# Altium schematic symbol library components.SchLib: 244 symbols (part 2 of 3)
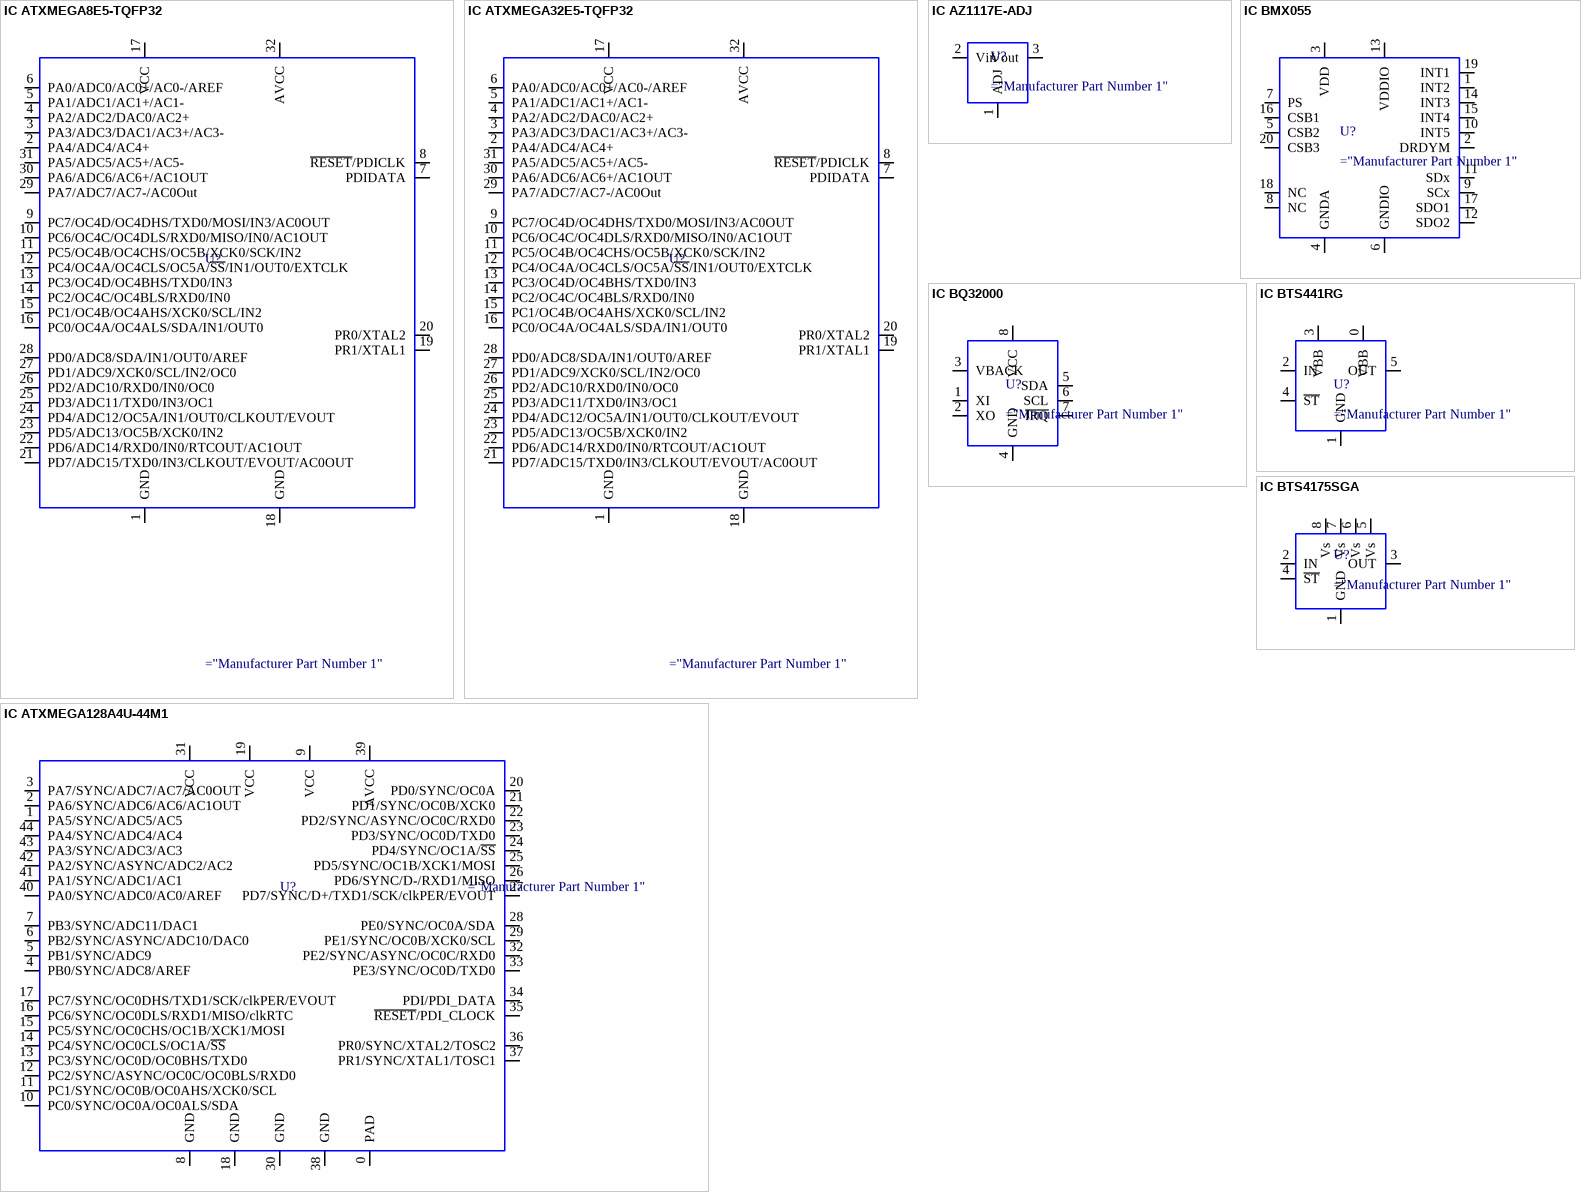
[diagram p26: symbols IC ATXMEGA8E5-TQFP32 to IC BTS4175SGA]

## IC AZ1117E-ADJ
designator U?
LDO Adjustable Output, Diodes AZ1117E-ADJ
pins: 1 ADJ, 2 Vin, 3 Vout

## IC BMX055
designator U?
IMU 9DoF, Bosch BMX055
pins: 1 INT2, 2 DRDYM, 3 VDD, 4 GNDA, 5 CSB2, 6 GNDIO, 7 PS, 8 NC, 9 SCx, 10 INT5, 11 SDx, 12 SDO2, 13 VDDIO, 14 INT3, 15 INT4, 16 CSB1, 17 SDO1, 18 NC, 19 INT1, 20 CSB3

## IC BQ32000
designator U?
RTC, TI BQ32000
pins: 1 XI, 2 XO, 3 VBACK, 4 GND, 5 SDA, 6 SCL, 7 ~{IRQ}, 8 VCC

## IC BTS441RG
designator U?
Current Limit Switch, High-Side, Infineon BTS441RG
pins: 0 VBB, 1 GND, 2 IN, 3 VBB, 4 ~{ST}, 5 OUT

## IC BTS4175SGA
designator U?
Current Limiting Switch, High-Side, Infineon BTS4175SGA
pins: 1 GND, 2 IN, 3 OUT, 4 ~{ST}, 5 Vs, 6 Vs, 7 Vs, 8 Vs

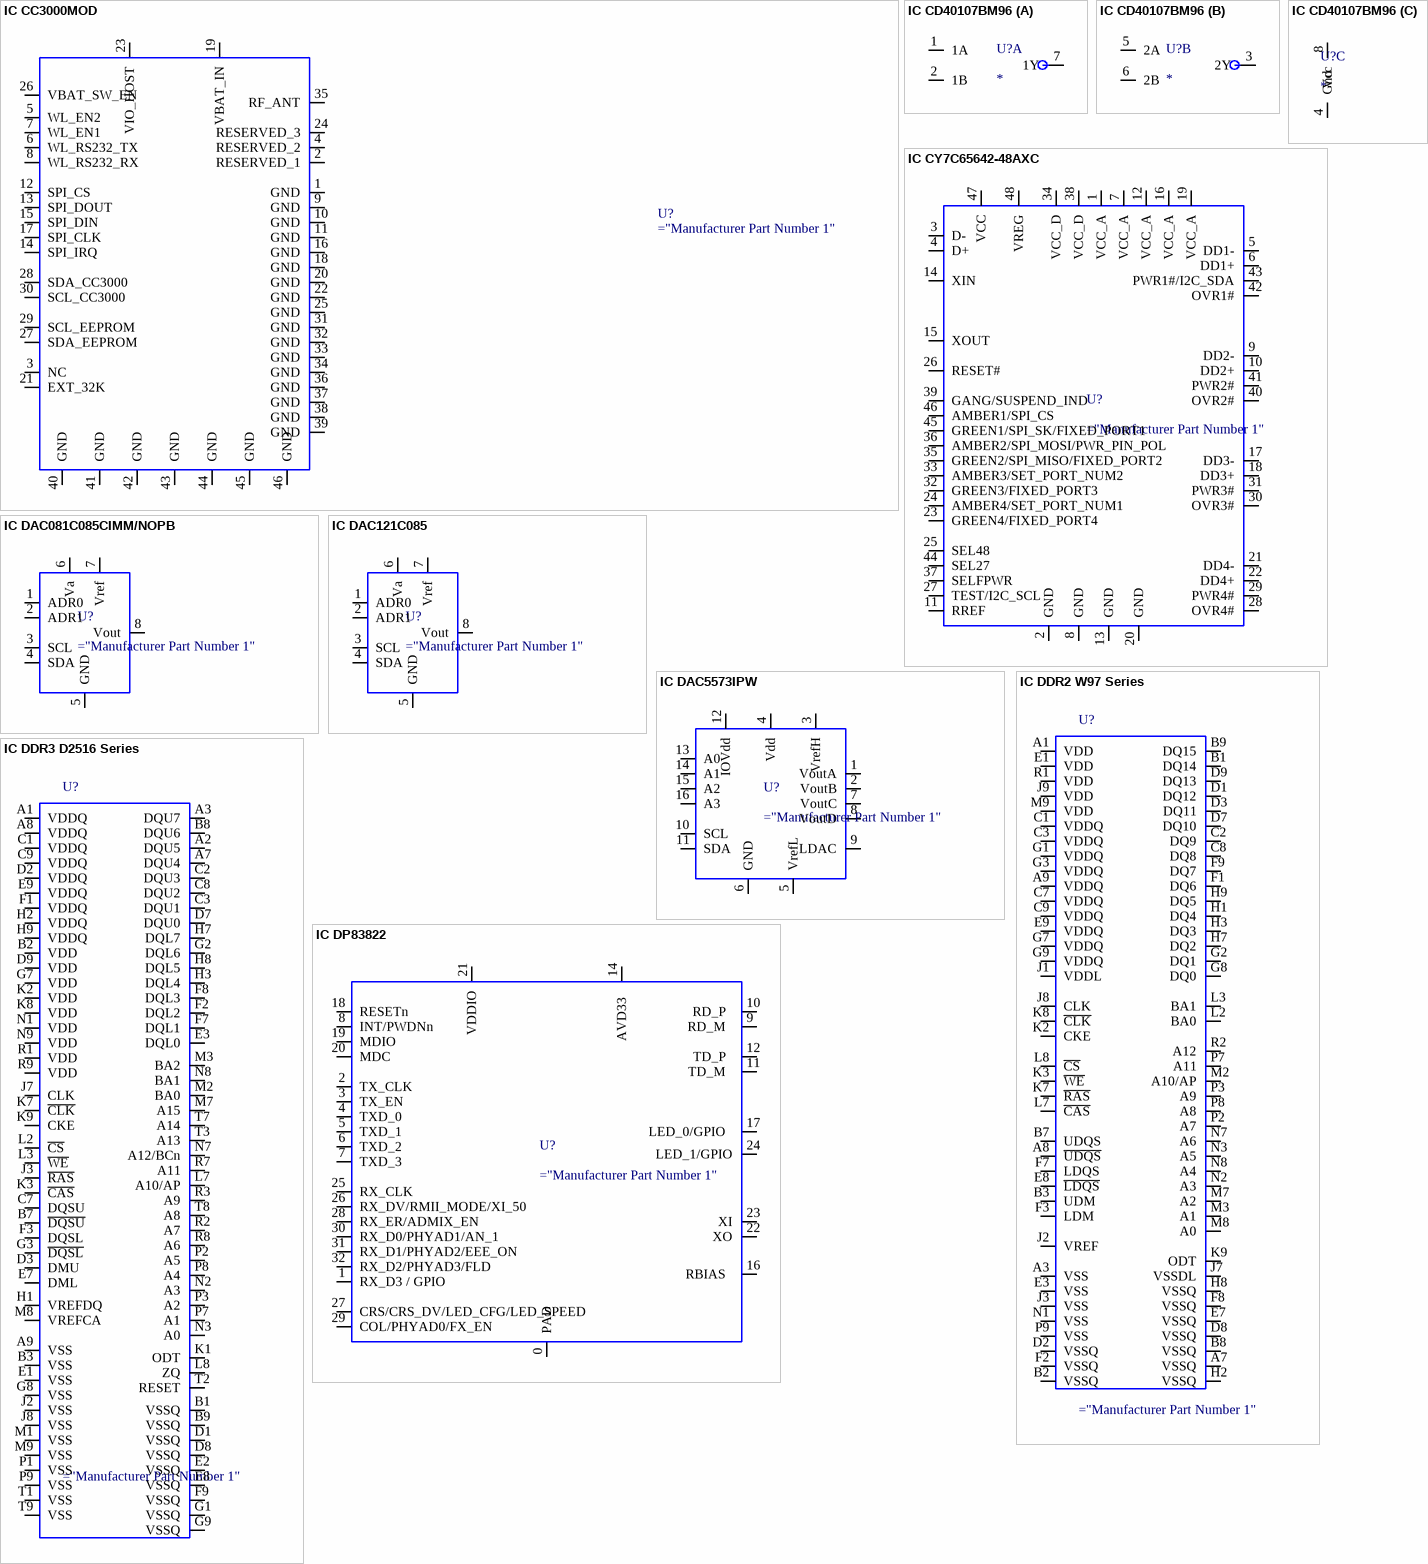
[diagram p14: symbols IC CC3000MOD to IC DP83822]

## IC CC3000MOD
designator U?
WiFi Network Processor, TI CC3000 Module
pins: 1 GND (power), 2 RESERVED_1, 3 NC, 4 RESERVED_2, 5 WL_EN2, 6 WL_RS232_TX, 7 WL_EN1, 8 WL_RS232_RX, 9 GND (power), 10 GND (power), 11 GND (power), 12 SPI_CS, 13 SPI_DOUT, 14 SPI_IRQ, 15 SPI_DIN, 16 GND (power), 17 SPI_CLK, 18 GND (power), 19 VBAT_IN (power), 20 GND (power), 21 EXT_32K, 22 GND (power), 23 VIO_HOST, 24 RESERVED_3, 25 GND (power), 26 VBAT_SW_EN, 27 SDA_EEPROM, 28 SDA_CC3000, 29 SCL_EEPROM, 30 SCL_CC3000, 31 GND (power), 32 GND (power), 33 GND (power), 34 GND (power), 35 RF_ANT, 36 GND (power), 37 GND (power), 38 GND (power), 39 GND (power), 40 GND (power), 41 GND (power), 42 GND (power), 43 GND (power), 44 GND (power), 45 GND (power), 46 GND (power)

## IC CD40107BM96
designator U?
Dual NAND Gate, Open-Drain, C40107BM96
part A pins: 1 1A, 2 1B, 7 1Y
part B pins: 3 2Y, 5 2A, 6 2B
part C pins: 4 Gnd, 8 Vcc

## IC CY7C65642-48AXC
designator U?
4-port USB Hub Controller, Cypress CY7C65642-48AXC
pins: 1 VCC_A, 2 GND, 3 D-, 4 D+, 5 DD1-, 6 DD1+, 7 VCC_A, 8 GND, 9 DD2-, 10 DD2+, 11 RREF, 12 VCC_A, 13 GND, 14 XIN, 15 XOUT, 16 VCC_A, 17 DD3-, 18 DD3+, 19 VCC_A, 20 GND, 21 DD4-, 22 DD4+, 23 GREEN4/FIXED_PORT4, 24 AMBER4/SET_PORT_NUM1, 25 SEL48, 26 RESET#, 27 TEST/I2C_SCL, 28 OVR4#, 29 PWR4#, 30 OVR3#, 31 PWR3#, 32 GREEN3/FIXED_PORT3, 33 AMBER3/SET_PORT_NUM2, 34 VCC_D, 35 GREEN2/SPI_MISO/FIXED_PORT2, 36 AMBER2/SPI_MOSI/PWR_PIN_POL, 37 SELFPWR, 38 VCC_D, 39 GANG/SUSPEND_IND, 40 OVR2#, 41 PWR2#, 42 OVR1#, 43 PWR1#/I2C_SDA, 44 SEL27, 45 GREEN1/SPI_SK/FIXED_PORT1, 46 AMBER1/SPI_CS, 47 VCC, 48 VREG

## IC DAC081C085CIMM/NOPB
designator U?
Single 8-bit DAC with internal reference, I2C, voltage output, TI DAC081C085
pins: 1 ADR0, 2 ADR1, 3 SCL, 4 SDA, 5 GND, 6 Va, 7 Vref, 8 Vout

## IC DAC121C085
designator U?
Single 12-bit DAC with I2C, TI DAC121C085
pins: 1 ADR0, 2 ADR1, 3 SCL, 4 SDA, 5 GND, 6 Va, 7 Vref, 8 Vout
1 alternate drawing of the same symbol

## IC DAC5573IPW
designator U?
Quad 8-bit buffered DAC with internal reference, I2C, voltage output, 16 Prog Addresses, TI DAC5573IPW
pins: 1 VoutA, 2 VoutB, 3 VrefH, 4 Vdd, 5 VrefL, 6 GND, 7 VoutC, 8 VoutD, 9 LDAC, 10 SCL, 11 SDA, 12 IOVdd, 13 A0, 14 A1, 15 A2, 16 A3
1 alternate drawing of the same symbol

## IC DDR2 W97 Series
designator U?
DDR2 SDRAM, Winbond W971GG6JB W9751G6KB
pins: A1 VDD, A3 VSS, A7 VSSQ, A8 ~{UDQS}, A9 VDDQ, B1 DQ14, B2 VSSQ, B3 UDM, B7 UDQS, B8 VSSQ, B9 DQ15, C1 VDDQ, C2 DQ9, C3 VDDQ, C7 VDDQ, C8 DQ8, C9 VDDQ, D1 DQ12, D2 VSSQ, D3 DQ11, D7 DQ10, D8 VSSQ, D9 DQ13, E1 VDD, E3 VSS, E7 VSSQ, E8 ~{LDQS}, E9 VDDQ, F1 DQ6, F2 VSSQ, F3 LDM, F7 LDQS, F8 VSSQ, F9 DQ7, G1 VDDQ, G2 DQ1, G3 VDDQ, G7 VDDQ, G8 DQ0, G9 VDDQ, H1 DQ4, H2 VSSQ, H3 DQ3, H7 DQ2, H8 VSSQ, H9 DQ5, J1 VDDL, J2 VREF, J3 VSS, J7 VSSDL, J8 CLK, J9 VDD, K2 CKE, K3 ~{WE}, K7 ~{RAS}, K8 ~{CLK}, K9 ODT, L2 BA0, L3 BA1, L7 ~{CAS}, L8 ~{CS}, M2 A10/AP, M3 A1, M7 A2, M8 A0, M9 VDD, N1 VSS, N2 A3, N3 A5, N7 A6, N8 A4, P2 A7, P3 A9, P7 A11, P8 A8, P9 VSS, R1 VDD, R2 A12

## IC DDR3 D2516 Series
designator U?
DDR3 SDRAM, Kingston 4Gb 256M words x 16 bits
pins: A1 VDDQ, A2 DQU5, A3 DQU7, A7 DQU4, A8 VDDQ, A9 VSS, B1 VSSQ, B2 VDD, B3 VSS, B7 ~{DQSU}, B8 DQU6, B9 VSSQ, C1 VDDQ, C2 DQU3, C3 DQU1, C7 DQSU, C8 DQU2, C9 VDDQ, D1 VSSQ, D2 VDDQ, D3 DMU, D7 DQU0, D8 VSSQ, D9 VDD, E1 VSS, E2 VSSQ, E3 DQL0, E7 DML, E8 VSSQ, E9 VDDQ, F1 VDDQ, F2 DQL2, F3 DQSL, F7 DQL1, F8 DQL3, F9 VSSQ, G1 VSSQ, G2 DQL6, G3 ~{DQSL}, G7 VDD, G8 VSS, G9 VSSQ, H1 VREFDQ, H2 VDDQ, H3 DQL4, H7 DQL7, H8 DQL5, H9 VDDQ, J2 VSS, J3 ~{RAS}, J7 CLK, J8 VSS, K1 ODT, K2 VDD, K3 ~{CAS}, K7 ~{CLK}, K8 VDD, K9 CKE, L2 ~{CS}, L3 ~{WE}, L7 A10/AP, L8 ZQ, M1 VSS, M2 BA0, M3 BA2, M7 A15, M8 VREFCA, M9 VSS, N1 VDD, N2 A3, N3 A0, N7 A12/BCn, N8 BA1, N9 VDD, P1 VSS, P2 A5, P3 A2, P7 A1, P8 A4, P9 VSS, R1 VDD, R2 A7, R3 A9, R7 A11, R8 A6, R9 VDD, T1 VSS, T2 RESET, T3 A13, T7 A14, T8 A8, T9 VSS

## IC DP83822
designator U?
TI DP83822 WoL EEE Ethernet PHY with LED drivers
pins: 0 PAD, 1 RX_D3 / GPIO  , 2 TX_CLK, 3 TX_EN, 4 TXD_0, 5 TXD_1, 6 TXD_2, 7 TXD_3, 8 INT/PWDNn, 9 RD_M  , 10 RD_P  , 11 TD_M  , 12 TD_P  , 13 NC hidden, 14 AVD33  , 15 NC hidden, 16 RBIAS  , 17 LED_0/GPIO  , 18 RESETn, 19 MDIO  , 20 MDC  , 21 VDDIO, 22 XO, 23 XI, 24 LED_1/GPIO, 25 RX_CLK, 26 RX_DV/RMII_MODE/XI_50, 27 CRS/CRS_DV/LED_CFG/LED_SPEED, 28 RX_ER/ADMIX_EN, 29 COL/PHYAD0/FX_EN, 30 RX_D0/PHYAD1/AN_1, 31 RX_D1/PHYAD2/EEE_ON, 32 RX_D2/PHYAD3/FLD

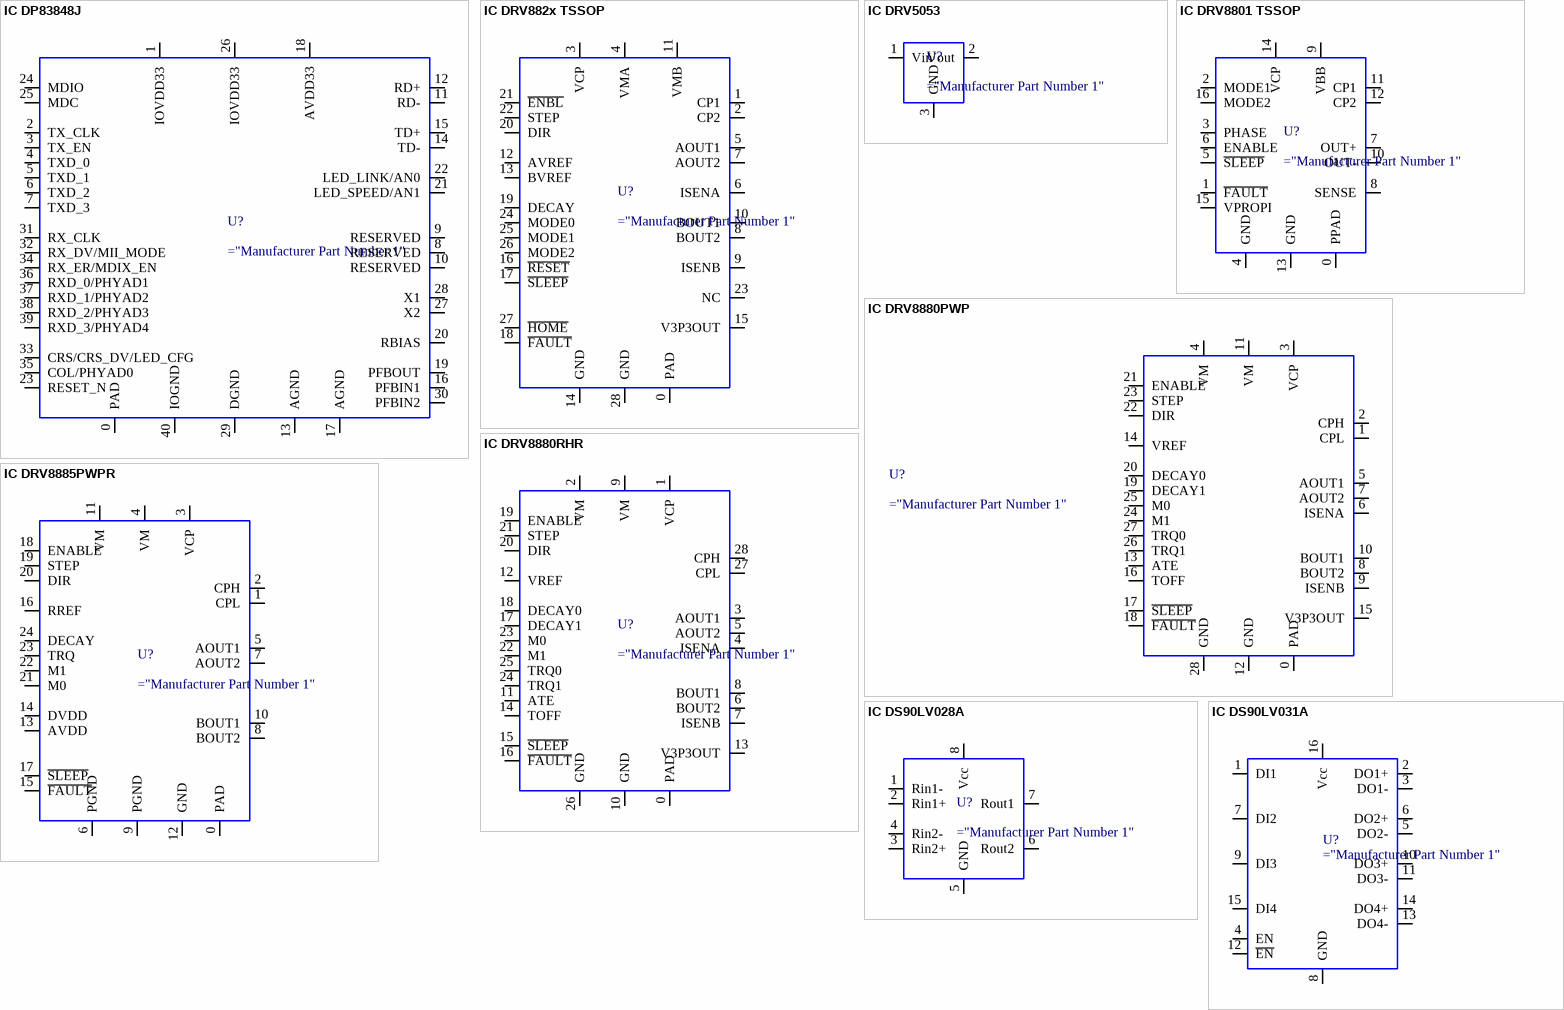
[diagram p15: symbols IC DP83848J to IC DS90LV031A]

## IC DP83848J
designator U?
Ethernet PHY with LED drivers, TI DP83848
pins: 0 PAD, 1 IOVDD33, 2 TX_CLK, 3 TX_EN, 4 TXD_0, 5 TXD_1, 6 TXD_2, 7 TXD_3, 8 RESERVED, 9 RESERVED, 10 RESERVED, 11 RD-, 12 RD+, 13 AGND, 14 TD-, 15 TD+, 16 PFBIN1, 17 AGND, 18 AVDD33, 19 PFBOUT, 20 RBIAS, 21 LED_SPEED/AN1, 22 LED_LINK/AN0, 23 RESET_N, 24 MDIO, 25 MDC, 26 IOVDD33, 27 X2, 28 X1, 29 DGND, 30 PFBIN2, 31 RX_CLK, 32 RX_DV/MII_MODE, 33 CRS/CRS_DV/LED_CFG, 34 RX_ER/MDIX_EN, 35 COL/PHYAD0, 36 RXD_0/PHYAD1, 37 RXD_1/PHYAD2, 38 RXD_2/PHYAD3, 39 RXD_3/PHYAD4, 40 IOGND

## IC DRV882x TSSOP
designator U?
Stepper Motor Controller, TI DRV8824/DRV8825
pins: 0 PAD, 1 CP1, 2 CP2, 3 VCP, 4 VMA, 5 AOUT1, 6 ISENA, 7 AOUT2, 8 BOUT2, 9 ISENB, 10 BOUT1, 11 VMB, 12 AVREF, 13 BVREF, 14 GND, 15 V3P3OUT, 16 ~{RESET}, 17 ~{SLEEP}, 18 ~{FAULT}, 19 DECAY, 20 DIR, 21 ~{ENBL}, 22 STEP, 23 NC, 24 MODE0, 25 MODE1, 26 MODE2, 27 ~{HOME}, 28 GND

## IC DRV5053
designator U?
TI Hall Effect Sensor Single Axis SOT-23-3
pins: 1 Vin, 2 Vout, 3 GND

## IC DRV8801 TSSOP
designator U?
TI DRV8801PWP, 2.8A Brushed DC Motor Driver with Current Sense
pins: 0 PPAD, 1 ~{FAULT}, 2 MODE1, 3 PHASE, 4 GND, 5 ~{SLEEP}, 6 ENABLE, 7 OUT+, 8 SENSE, 9 VBB, 10 OUT-, 11 CP1, 12 CP2, 13 GND, 14 VCP, 15 VPROPI, 16 MODE2

## IC DRV8880PWP
designator U?
Stepper Motor Driver, TI DRV8880PWP
pins: 0 PAD, 1 CPL, 2 CPH, 3 VCP, 4 VM, 5 AOUT1, 6 ISENA, 7 AOUT2, 8 BOUT2, 9 ISENB, 10 BOUT1, 11 VM, 12 GND, 13 ATE, 14 VREF, 15 V3P3OUT, 16 TOFF, 17 ~{SLEEP}, 18 ~{FAULT}, 19 DECAY1, 20 DECAY0, 21 ENABLE, 22 DIR, 23 STEP, 24 M1, 25 M0, 26 TRQ1, 27 TRQ0, 28 GND
1 alternate drawing of the same symbol

## IC DRV8880RHR
designator U?
Stepper Motor Driver, TI DRV8880RHR
pins: 0 PAD, 1 VCP, 2 VM, 3 AOUT1, 4 ISENA, 5 AOUT2, 6 BOUT2, 7 ISENB, 8 BOUT1, 9 VM, 10 GND, 11 ATE, 12 VREF, 13 V3P3OUT, 14 TOFF, 15 ~{SLEEP}, 16 ~{FAULT}, 17 DECAY1, 18 DECAY0, 19 ENABLE, 20 DIR, 21 STEP, 22 M1, 23 M0, 24 TRQ1, 25 TRQ0, 26 GND, 27 CPL, 28 CPH
1 alternate drawing of the same symbol

## IC DRV8885PWPR
designator U?
Stepper Motor Driver, TI DRV8885PWPR
pins: 0 PAD, 1 CPL, 2 CPH, 3 VCP, 4 VM, 5 AOUT1, 6 PGND, 7 AOUT2, 8 BOUT2, 9 PGND, 10 BOUT1, 11 VM, 12 GND, 13 AVDD, 14 DVDD, 15 ~{FAULT}, 16 RREF, 17 ~{SLEEP}, 18 ENABLE, 19 STEP, 20 DIR, 21 M0, 22 M1, 23 TRQ, 24 DECAY
1 alternate drawing of the same symbol

## IC DS90LV028A
designator U?
Dual CMOS LVDS Receiver, TI DS90LV028A
pins: 1 Rin1-, 2 Rin1+, 3 Rin2+, 4 Rin2-, 5 GND, 6 Rout2, 7 Rout1, 8 Vcc

## IC DS90LV031A
designator U?
Quad LVDS Line Driver LVDS, TI DS90LV031A
pins: 1 DI1, 2 DO1+, 3 DO1-, 4 EN, 5 DO2-, 6 DO2+, 7 DI2, 8 GND, 9 DI3, 10 DO3+, 11 DO3-, 12 ~{EN}, 13 DO4-, 14 DO4+, 15 DI4, 16 Vcc

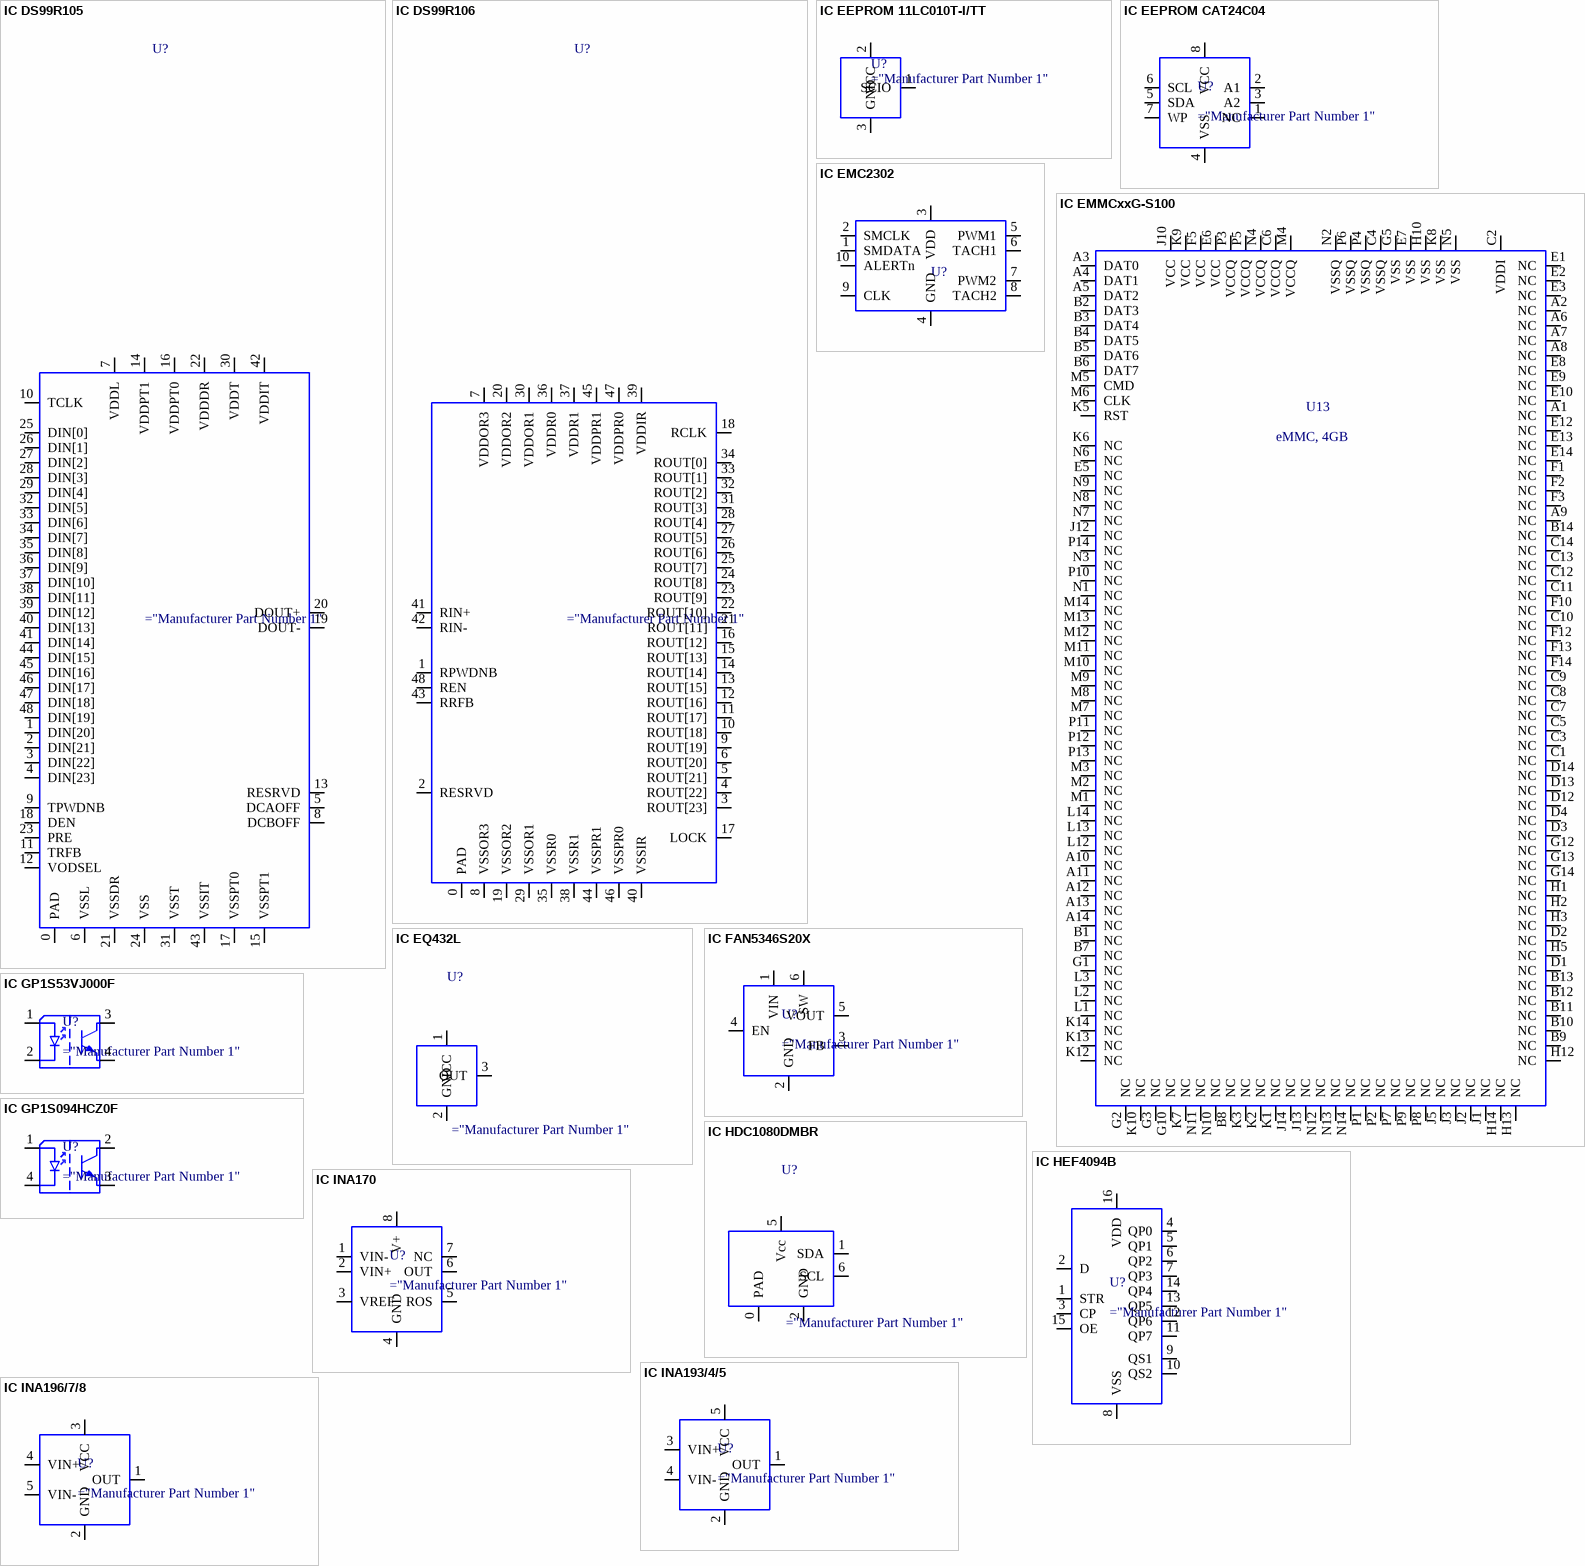
[diagram p16: symbols IC DS99R105 to IC INA196/7/8]

## IC DS99R105
designator U?
LVDS 24-bit Serializer, TI DS99R105
pins: 0 PAD, 1 DIN[20], 2 DIN[21], 3 DIN[22], 4 DIN[23], 5 DCAOFF, 6 VSSL, 7 VDDL, 8 DCBOFF, 9 TPWDNB, 10 TCLK, 11 TRFB, 12 VODSEL, 13 RESRVD, 14 VDDPT1, 15 VSSPT1, 16 VDDPT0, 17 VSSPT0, 18 DEN, 19 DOUT-, 20 DOUT+, 21 VSSDR, 22 VDDDR, 23 PRE, 24 VSS, 25 DIN[0], 26 DIN[1], 27 DIN[2], 28 DIN[3], 29 DIN[4], 30 VDDT, 31 VSST, 32 DIN[5], 33 DIN[6], 34 DIN[7], 35 DIN[8], 36 DIN[9], 37 DIN[10], 38 DIN[11], 39 DIN[12], 40 DIN[13], 41 DIN[14], 42 VDDIT, 43 VSSIT, 44 DIN[15], 45 DIN[16], 46 DIN[17], 47 DIN[18], 48 DIN[19]

## IC DS99R106
designator U?
LVDS 24-bit Deserializer, TI DS99R106
pins: 0 PAD, 1 RPWDNB, 2 RESRVD, 3 ROUT[23], 4 ROUT[22], 5 ROUT[21], 6 ROUT[20], 7 VDDOR3, 8 VSSOR3, 9 ROUT[19], 10 ROUT[18], 11 ROUT[17], 12 ROUT[16], 13 ROUT[15], 14 ROUT[14], 15 ROUT[13], 16 ROUT[12], 17 LOCK, 18 RCLK, 19 VSSOR2, 20 VDDOR2, 21 ROUT[11], 22 ROUT[10], 23 ROUT[9], 24 ROUT[8], 25 ROUT[7], 26 ROUT[6], 27 ROUT[5], 28 ROUT[4], 29 VSSOR1, 30 VDDOR1, 31 ROUT[3], 32 ROUT[2], 33 ROUT[1], 34 ROUT[0], 35 VSSR0, 36 VDDR0, 37 VDDR1, 38 VSSR1, 39 VDDIR, 40 VSSIR, 41 RIN+, 42 RIN-, 43 RRFB, 44 VSSPR1, 45 VDDPR1, 46 VSSPR0, 47 VDDPR0, 48 REN

## IC EEPROM 11LC010T-I/TT
designator U?
Microchip Single-wire EEPROM 1LC010T-I/TT
pins: 1 SCIO, 2 VCC, 3 GND (power)

## IC EEPROM CAT24C04
designator U?
EEPROM 4kB, ON Semi CAT24C04
pins: 1 NC, 2 A1, 3 A2, 4 VSS, 5 SDA, 6 SCL, 7 WP, 8 VCC

## IC EMC2302
designator U?
2-Channel PWM I2C Fan Driver
pins: 1 SMDATA, 2 SMCLK, 3 VDD, 4 GND, 5 PWM1, 6 TACH1, 7 PWM2, 8 TACH2, 9 CLK, 10 ALERTn

## IC EMMCxxG-S100
designator U13, comment eMMC, 4GB
Standard eMMC 5.0 (HS200), Kingston EMMCxxG-S100
pins: A1 NC, A2 NC, A3 DAT0, A4 DAT1, A5 DAT2, A6 NC, A7 NC, A8 NC, A9 NC, A10 NC, A11 NC, A12 NC, A13 NC, A14 NC, B1 NC, B2 DAT3, B3 DAT4, B4 DAT5, B5 DAT6, B6 DAT7, B7 NC, B8 NC, B9 NC, B10 NC, B11 NC, B12 NC, B13 NC, B14 NC, C1 NC, C2 VDDI, C3 NC, C4 VSSQ, C5 NC, C6 VCCQ, C7 NC, C8 NC, C9 NC, C10 NC, C11 NC, C12 NC, C13 NC, C14 NC, D1 NC, D2 NC, D3 NC, D4 NC, D12 NC, D13 NC, D14 NC, E1 NC, E2 NC, E3 NC, E5 NC, E6 VCC, E7 VSS, E8 NC, E9 NC, E10 NC, E12 NC, E13 NC, E14 NC, F1 NC, F2 NC, F3 NC, F5 VCC, F10 NC, F12 NC, F13 NC, F14 NC, G1 NC, G2 NC, G3 NC, G5 VSS, G10 NC, G12 NC, G13 NC, G14 NC, H1 NC, H2 NC, H3 NC, H5 NC, H10 VSS, H12 NC, H13 NC, H14 NC, J1 NC, J2 NC, J3 NC, J5 NC, J10 VCC, J12 NC, J13 NC, J14 NC, K1 NC, K2 NC, K3 NC, K5 RST, K6 NC, K7 NC, K8 VSS, K9 VCC, K10 NC, K12 NC, K13 NC, K14 NC, L1 NC, L2 NC, L3 NC, L12 NC, L13 NC, L14 NC, M1 NC, M2 NC, M3 NC, M4 VCCQ, M5 CMD, M6 CLK, M7 NC, M8 NC, M9 NC, M10 NC, M11 NC, M12 NC, M13 NC, M14 NC, N1 NC, N2 VSSQ, N3 NC, N4 VCCQ, N5 VSS, N6 NC, N7 NC, N8 NC, N9 NC, N10 NC, N11 NC, N12 NC, N13 NC, N14 NC, P1 NC, P2 NC, P3 VCCQ, P4 VSSQ, P5 VCCQ, P6 VSSQ, P7 NC, P8 NC, P9 NC, P10 NC, P11 NC, P12 NC, P13 NC, P14 NC
1 alternate drawing of the same symbol

## IC EQ432L
designator U?
Linear Hall-Effect Sensor, AKM EQ432L
pins: 1 VCC (power), 2 GND (power), 3 OUT

## IC FAN5346S20X
designator U?
Boost LED Driver, Fairchild FAN5346S20X
pins: 1 VIN, 2 GND, 3 FB, 4 EN, 5 VOUT, 6 SW

## IC GP1S53VJ000F
designator U?
Photointerrupter, Sharp GP1S53VJ000F
pins: 1 Anode, 2 Cathode, 3 Collector, 4 Emitter

## IC GP1S094HCZ0F
designator U?
Photointerrupter, Sharp GP1S094HCZ0F
pins: 1 Anode, 2 Cathode, 3 Collector, 4 Emitter

## IC HDC1080DMBR
designator U?
Humidity Temperature Sensor 0 - 100% RH I2C
pins: 0 PAD, 1 SDA, 2 GND, 3 NC hidden, 4 NC hidden, 5 Vcc, 6 SCL
1 alternate drawing of the same symbol

## IC HEF4094B
designator U?
8-Bit Shift-and-Store Register, NXP HEF4094B
pins: 1 STR, 2 D, 3 CP, 4 QP0, 5 QP1, 6 QP2, 7 QP3, 8 VSS, 9 QS1, 10 QS2, 11 QP7, 12 QP6, 13 QP5, 14 QP4, 15 OE, 16 VDD

## IC INA170
designator U?
Current Shunt Monitor, High-Side, Bidirectional, TI INA170
pins: 1 VIN-, 2 VIN+, 3 VREF, 4 GND, 5 ROS, 6 OUT, 7 NC, 8 V+

## IC INA193/4/5
designator U?
Current shunt monitor, TI INA193, INA194, INA195
pins: 1 OUT, 2 GND, 3 VIN+, 4 VIN-, 5 VCC

## IC INA196/7/8
designator U?
Current shunt monitor, TI INA196, INA197, INA198
pins: 1 OUT, 2 GND, 3 VCC, 4 VIN+, 5 VIN-
1 alternate drawing of the same symbol

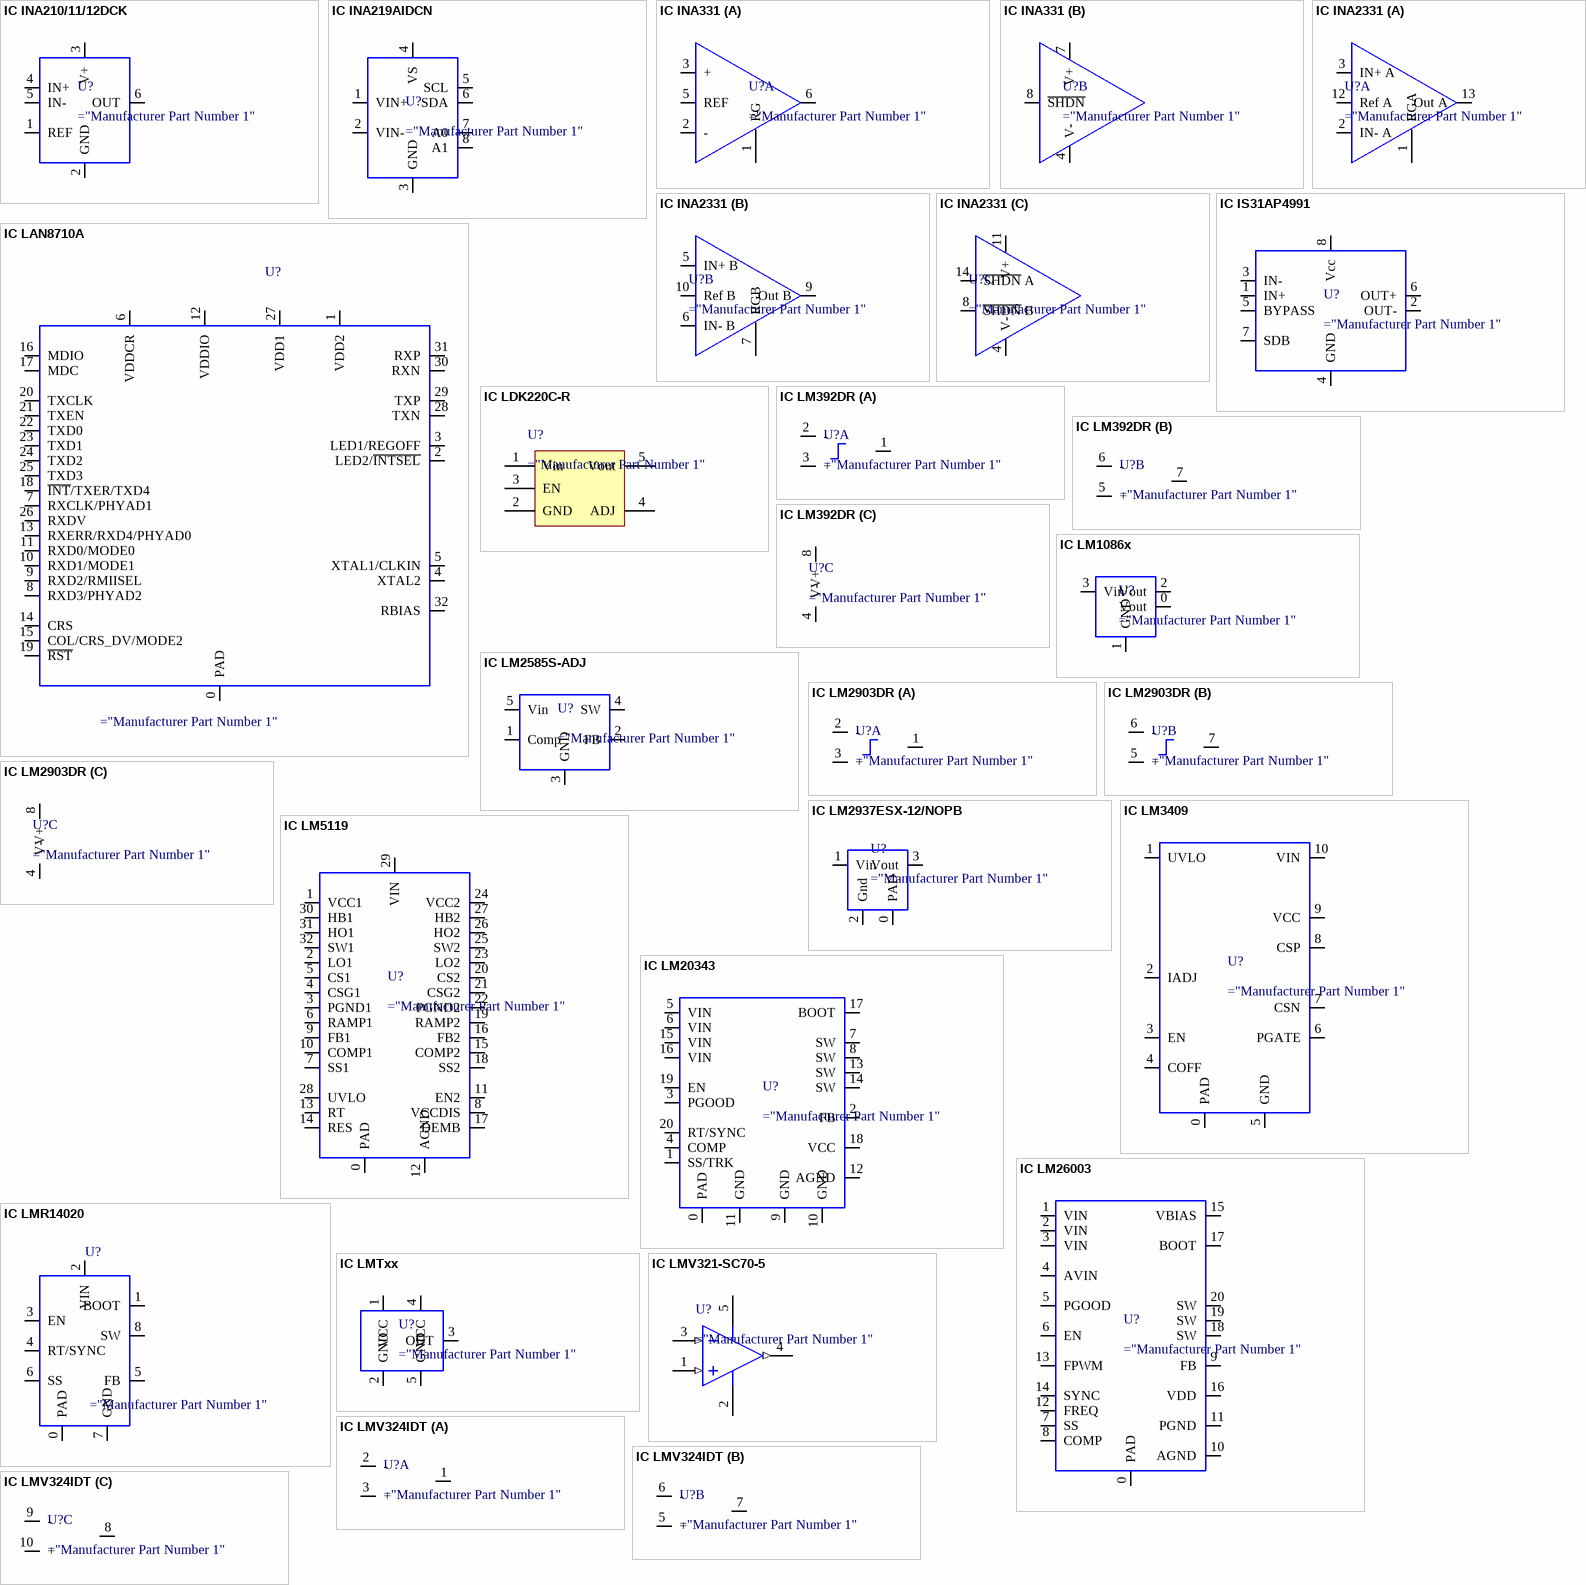
[diagram p17: symbols IC INA210/11/12DCK to IC LMV324IDT]

## IC INA210/11/12DCK
designator U?
Current Shunt Monitor, TI INA210/11/12
pins: 1 REF, 2 GND, 3 V+, 4 IN+, 5 IN-, 6 OUT

## IC INA219AIDCN
designator U?
Bi-Directional Current/Power Monitor, TI INA219AIDCN
pins: 1 VIN+, 2 VIN-, 3 GND, 4 VS, 5 SCL, 6 SDA, 7 A0, 8 A1

## IC INA331
designator U?
Single Instrumentation Amp, TI INA331AIDGKT
part A pins: 1 RG, 2 -, 3 +, 5 REF, 6 Out
part B pins: 4 V-, 7 V+, 8 ~{SHDN}

## IC INA2331
designator U?
Dual Instrumentation Amp Low Power, Single Supply
part A pins: 1 RGA, 2 IN- A, 3 IN+ A, 12 Ref A, 13 Out A
part B pins: 5 IN+ B, 6 IN- B, 7 RGB, 9 Out B, 10 Ref B
part C pins: 4 V-, 8 ~{SHDN} B, 11 V+, 14 ~{SHDN} A

## IC IS31AP4991
designator U?
Audio Power Amplifier, ISSI IS31AP4991
pins: 1 IN+, 2 OUT-, 3 IN-, 4 GND, 5 BYPASS, 6 OUT+, 7 SDB, 8 Vcc

## IC LAN8710A
designator U?
10/100 Ethernet PHY, Microchip LAN8710A
pins: 0 PAD, 1 VDD2, 2 LED2/~{INTSEL}, 3 LED1/REGOFF, 4 XTAL2, 5 XTAL1/CLKIN, 6 VDDCR, 7 RXCLK/PHYAD1, 8 RXD3/PHYAD2, 9 RXD2/RMIISEL, 10 RXD1/MODE1, 11 RXD0/MODE0, 12 VDDIO, 13 RXERR/RXD4/PHYAD0, 14 CRS, 15 COL/CRS_DV/MODE2, 16 MDIO, 17 MDC, 18 ~{INT}/TXER/TXD4, 19 ~{RST}, 20 TXCLK, 21 TXEN, 22 TXD0, 23 TXD1, 24 TXD2, 25 TXD3, 26 RXDV, 27 VDD1, 28 TXN, 29 TXP, 30 RXN, 31 RXP, 32 RBIAS

## IC LDK220C-R
designator U?
LDO, 200mA, 2.5-13.2V Out
pins: 1 Vin (power) "Input Voltage", 2 GND (power) "Ground", 3 EN (power) "Active High Enable", 4 ADJ (power) "Voltage Feedback Pin", 5 Vout "Output Voltage"

## IC LM392DR
designator U?
Opamp/Comparator TI LM392DR
part A pins: 1 Out1, 2 -, 3 +
part B pins: 5 +, 6 -, 7 Out2
part C pins: 4 V-, 8 V+

## IC LM1086x
designator U?
LDO Fixed Output, TI LM1086x
pins: 0 Vout, 1 GND, 2 Vout, 3 Vin

## IC LM2585S-ADJ
designator U?
Switching Regulator adjustable output, TI LM2585-ADJ
pins: 0 PAD hidden, 1 Comp, 2 FB, 3 GND, 4 SW, 5 Vin

## IC LM2903DR
designator U?
Dual Comparators, TI LM2903DR
part A pins: 1 Out1, 2 -, 3 +
part B pins: 5 +, 6 -, 7 Out2
part C pins: 4 V-, 8 V+

## IC LM2937ESX-12/NOPB
designator U?
LDO Fixed Output, TI LM2937ESX-12/NOPB
pins: 0 PAD, 1 Vin, 2 Gnd, 3 Vout

## IC LM3409
designator U?
Buck LED driver w/External PFET, TI LM3409
pins: 0 PAD, 1 UVLO, 2 IADJ, 3 EN, 4 COFF, 5 GND, 6 PGATE, 7 CSN, 8 CSP, 9 VCC, 10 VIN

## IC LM5119
designator U?
Dual Step-down controller, TI LM5119
pins: 0 PAD, 1 VCC1, 2 LO1, 3 PGND1, 4 CSG1, 5 CS1, 6 RAMP1, 7 SS1, 8 VCCDIS, 9 FB1, 10 COMP1, 11 EN2, 12 AGND, 13 RT, 14 RES, 15 COMP2, 16 FB2, 17 DEMB, 18 SS2, 19 RAMP2, 20 CS2, 21 CSG2, 22 PGND2, 23 LO2, 24 VCC2, 25 SW2, 26 HO2, 27 HB2, 28 UVLO, 29 VIN, 30 HB1, 31 HO1, 32 SW1

## IC LM20343
designator U?
Step-down regulator, TI LM20343
pins: 0 PAD, 1 SS/TRK, 2 FB, 3 PGOOD, 4 COMP, 5 VIN, 6 VIN, 7 SW, 8 SW, 9 GND, 10 GND, 11 GND, 12 AGND, 13 SW, 14 SW, 15 VIN, 16 VIN, 17 BOOT, 18 VCC, 19 EN, 20 RT/SYNC

## IC LM26003
designator U?
Step-down regulator, TI LM26003
pins: 0 PAD, 1 VIN, 2 VIN, 3 VIN, 4 AVIN, 5 PGOOD, 6 EN, 7 SS, 8 COMP, 9 FB, 10 AGND, 11 PGND, 12 FREQ, 13 FPWM, 14 SYNC, 15 VBIAS, 16 VDD, 17 BOOT, 18 SW, 19 SW, 20 SW

## IC LMR14020
designator U?
Buck Converter, TI LMR14020
pins: 0 PAD, 1 BOOT, 2 VIN, 3 EN, 4 RT/SYNC, 5 FB, 6 SS, 7 GND, 8 SW

## IC LMTxx
designator U?
Temperature Sensor with analog output
pins: 1 VCC (power), 2 GND (power), 3 OUT, 4 VCC (power), 5 GND (power)

## IC LMV321-SC70-5
designator U?
Single Supply, Single Input General Purpose OPAMP
pins: 1 IN+ (in), 2 V- (power), 3 IN- (in), 4 OUT (out), 5 V+ (power)

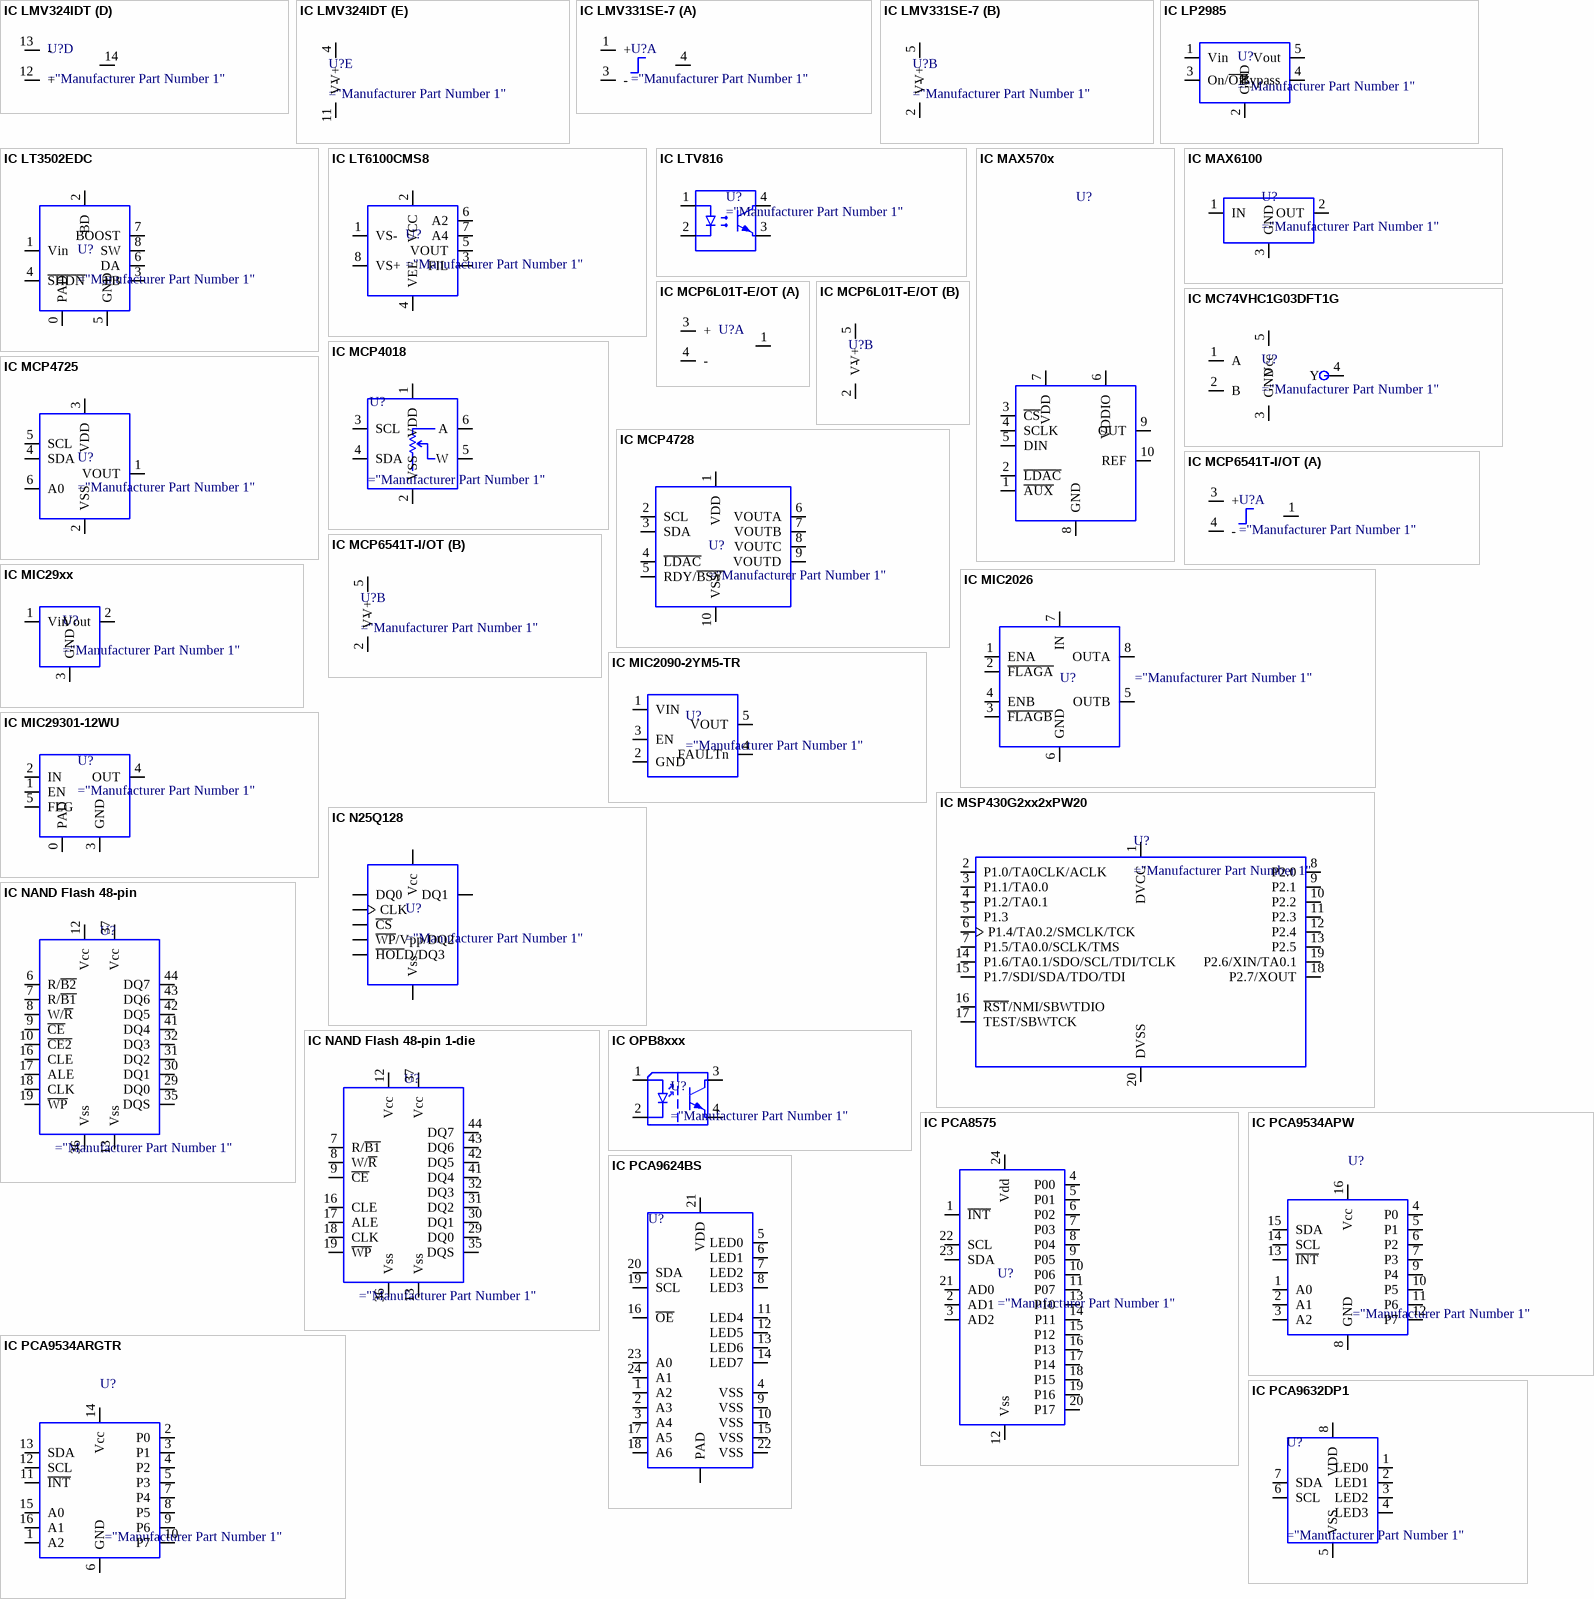
[diagram p18: symbols IC LMV324IDT to IC PCA9632DP1]

## IC LMV324IDT
designator U?
Quad Opamp GP Rail-to-rail STM LMV324IDT
part A pins: 1 Out1, 2 -, 3 +
part B pins: 5 +, 6 -, 7 Out2
part C pins: 8 Out3, 9 -, 10 +
part D pins: 12 +, 13 -, 14 Out4
part E pins: 4 V+, 11 V-

## IC LMV331SE-7
designator U?
Single Comparator with Open-collector Output
part A pins: 1 +, 3 -, 4 O
part B pins: 2 V-, 5 V+

## IC LP2985
designator U?
LDO Fixed Output, TI LP2985
pins: 1 Vin, 2 GND, 3 On/~{Off}, 4 Bypass, 5 Vout

## IC LT3502EDC
designator U?
Step Down Converter, Linear LT3503EDC
pins: 0 PAD, 1 Vin, 2 BD, 3 FB, 4 ~{SHDN}, 5 GND, 6 DA, 7 BOOST, 8 SW

## IC LT6100CMS8
designator U?
Current Sense Amplifier, Linear LT6100
pins: 1 VS-, 2 VCC, 3 FIL, 4 VEE, 5 VOUT, 6 A2, 7 A4, 8 VS+

## IC LTV816
designator U?
Optoisolator, Lite-On LTV-816S
pins: 1 Anode, 2 Cathode, 3 Emitter, 4 Collector

## IC MAX570x
designator U?
Single Channel DAC, Maxim MAX5703/5704/5705
pins: 1 ~{AUX}, 2 ~{LDAC}, 3 ~{CS}, 4 SCLK, 5 DIN, 6 VDDIO, 7 VDD, 8 GND, 9 OUT, 10 REF

## IC MAX6100
designator U?
Voltage Reference, Maxim MAX6100/MAX6012
pins: 1 IN, 2 OUT, 3 GND

## IC MC74VHC1G03DFT1G
designator U?
Single NOR Gate, ON Semi MC74VHC1G03DFT1G
pins: 1 A, 2 B, 3 GND, 4 Y, 5 Vcc

## IC MCP6L01T-E/OT
designator U?
Single Opamp, Microchip MCP6L01T-E/OT
part A pins: 1 O, 3 +, 4 -
part B pins: 2 V-, 5 V+

## IC MCP4018
designator U?
Single Digital Pot, Microchip MCP4018
pins: 1 VDD, 2 VSS, 3 SCL, 4 SDA, 5 W, 6 A

## IC MCP4725
designator U?
Single 12-bit DAC / EEPROM, Microchip MCP4725
pins: 1 VOUT, 2 VSS, 3 VDD, 4 SDA, 5 SCL, 6 A0

## IC MCP4728
designator U?
4 channel DAC, Microchip MCP4728
pins: 1 VDD, 2 SCL, 3 SDA, 4 ~{LDAC}, 5 RDY/~{BSY}, 6 VOUTA, 7 VOUTB, 8 VOUTC, 9 VOUTD, 10 VSS
1 alternate drawing of the same symbol

## IC MCP6541T-I/OT
designator U?
Single Comparator with Push-Pull Output, Microchip MCP6541T-I/OT
part A pins: 1 O, 3 +, 4 -
part B pins: 2 V-, 5 V+

## IC MIC29xx
designator U?
LDO Fixed Output, Micrel MIC29xx
pins: 1 Vin, 2 Vout, 3 GND

## IC MIC2026
designator U?
Dual USB Channel Power Switch, Micrel MIC2026
pins: 1 ENA, 2 ~{FLAGA}, 3 ~{FLAGB}, 4 ENB, 5 OUTB, 6 GND, 7 IN, 8 OUTA

## IC MIC2090-2YM5-TR
designator U?
IC DISTRIBUTION SW 50MA SOT-23-5
pins: 1 VIN, 2 GND, 3 EN, 4 FAULTn, 5 VOUT

## IC MIC29301-12WU
designator U?
LDO Fixed Output, Micrel MIC29301-12WU
pins: 0 PAD, 1 EN, 2 IN, 3 GND, 4 OUT, 5 FLG

## IC MSP430G2xx2xPW20
designator U?
MCU MSP430, TI MSP430G2xx2 20-pin SOP
pins: 1 DVCC "Supply voltage", 2 P1.0/TA0CLK/ACLK, 3 P1.1/TA0.0, 4 P1.2/TA0.1, 5 P1.3 "General-purpose digital I/O pin", 6 P1.4/TA0.2/SMCLK/TCK, 7 P1.5/TA0.0/SCLK/TMS, 8 P2.0 "General-purpose digital I/O pin", 9 P2.1 "General-purpose digital I/O pin", 10 P2.2 "General-purpose digital I/O pin", 11 P2.3 "General-purpose digital I/O pin", 12 P2.4 "General-purpose digital I/O pin", 13 P2.5 "General-purpose digital I/O pin", 14 P1.6/TA0.1/SDO/SCL/TDI/TCLK, 15 P1.7/SDI/SDA/TDO/TDI, 16 ~{RST}/NMI/SBWTDIO, 17 TEST/SBWTCK, 18 P2.7/XOUT, 19 P2.6/XIN/TA0.1, 20 DVSS "Ground reference"

## IC N25Q128
designator U?
NOR Flash, Micron N25Q128A13BSF40F
pins: 1 ~{HOL}D/DQ3, 2 Vcc, 3 N.C. hidden, 4 N.C. hidden, 5 N.C. hidden, 6 N.C. hidden, 7 ~{CS}, 8 DQ1, 9 ~{WP}/Vpp/DQ2, 10 Vss, 11 N.C. hidden, 12 N.C. hidden, 13 N.C. hidden, 14 N.C. hidden, 15 DQ0, 16 CLK

## IC NAND Flash 48-pin
designator U?
NAND Flash, Micron MT29F32G08CFACAWP:C
pins: 1 NC hidden, 2 NC hidden, 3 NC hidden, 4 NC hidden, 5 NC hidden, 6 R/~{B2}, 7 R/~{B1}, 8 W/~{R}, 9 ~{CE}, 10 ~{CE2}, 11 NC hidden, 12 Vcc (power), 13 Vss (power), 14 NC hidden, 15 NC hidden, 16 CLE, 17 ALE, 18 CLK, 19 ~{WP}, 20 NC hidden, 21 NC hidden, 22 NC hidden, 23 NC hidden, 24 NC hidden, 25 NC hidden, 26 NC hidden, 27 NC hidden, 28 NC hidden, 29 DQ0, 30 DQ1, 31 DQ2, 32 DQ3, 33 NC hidden, 34 NC hidden, 35 DQS, 36 Vss (power), 37 Vcc (power), 38 NC hidden, 39 NC hidden, 40 NC hidden, 41 DQ4, 42 DQ5, 43 DQ6, 44 DQ7, 45 NC hidden, 46 NC hidden, 47 NC hidden, 48 NC hidden
1 alternate drawing of the same symbol

## IC NAND Flash 48-pin 1-die
designator U?
NAND Flash, Micron MT29F32G08CBACAWP:C
pins: 1 NC hidden, 2 NC hidden, 3 NC hidden, 4 NC hidden, 5 NC hidden, 6 NC hidden to GND, 7 R/~{B1}, 8 W/~{R}, 9 ~{CE}, 10 NC hidden to GND, 11 NC hidden, 12 Vcc (power), 13 Vss (power), 14 NC hidden, 15 NC hidden, 16 CLE, 17 ALE, 18 CLK, 19 ~{WP}, 20 NC hidden, 21 NC hidden, 22 NC hidden, 23 NC hidden, 24 NC hidden, 25 NC hidden, 26 NC hidden, 27 NC hidden, 28 NC hidden, 29 DQ0, 30 DQ1, 31 DQ2, 32 DQ3, 33 NC hidden, 34 NC hidden, 35 DQS, 36 Vss (power), 37 Vcc (power), 38 NC hidden, 39 NC hidden, 40 NC hidden, 41 DQ4, 42 DQ5, 43 DQ6, 44 DQ7, 45 NC hidden, 46 NC hidden, 47 NC hidden, 48 NC hidden
1 alternate drawing of the same symbol

## IC OPB8xxx
designator U?
Photointerrupter, Optek OPB8xxx series
pins: 1 Anode, 2 Cathode, 3 Collector, 4 Emitter

## IC PCA8575
designator U?
16-bit I2C I/O Expander, NXP PCA8575
pins: 1 ~{INT}, 2 AD1, 3 AD2, 4 P00, 5 P01, 6 P02, 7 P03, 8 P04, 9 P05, 10 P06, 11 P07, 12 Vss, 13 P10, 14 P11, 15 P12, 16 P13, 17 P14, 18 P15, 19 P16, 20 P17, 21 AD0, 22 SCL, 23 SDA, 24 Vdd
1 alternate drawing of the same symbol

## IC PCA9534APW
designator U?
8-bit I2C I/O Expander, TI PCA9534APW
pins: 1 A0, 2 A1, 3 A2, 4 P0, 5 P1, 6 P2, 7 P3, 8 GND, 9 P4, 10 P5, 11 P6, 12 P7, 13 ~{INT}, 14 SCL, 15 SDA, 16 Vcc

## IC PCA9534ARGTR
designator U?
8-bit I2C I/O Expander, TI PCA9534ARGTR
pins: 1 A2, 2 P0, 3 P1, 4 P2, 5 P3, 6 GND, 7 P4, 8 P5, 9 P6, 10 P7, 11 ~{INT}, 12 SCL, 13 SDA, 14 Vcc, 15 A0, 16 A1
1 alternate drawing of the same symbol

## IC PCA9624BS
designator U?
LED Driver, NXP PCA9624BS
pins: 0 PAD, 1 A2, 2 A3, 3 A4, 4 VSS, 5 LED0, 6 LED1, 7 LED2, 8 LED3, 9 VSS, 10 VSS, 11 LED4, 12 LED5, 13 LED6, 14 LED7, 15 VSS, 16 ~{OE}, 17 A5, 18 A6, 19 SCL, 20 SDA, 21 VDD, 22 VSS, 23 A0, 24 A1

## IC PCA9632DP1
designator U?
LED Driver, NXP PCA9632DP1
pins: 1 LED0, 2 LED1, 3 LED2, 4 LED3, 5 VSS, 6 SCL, 7 SDA, 8 VDD

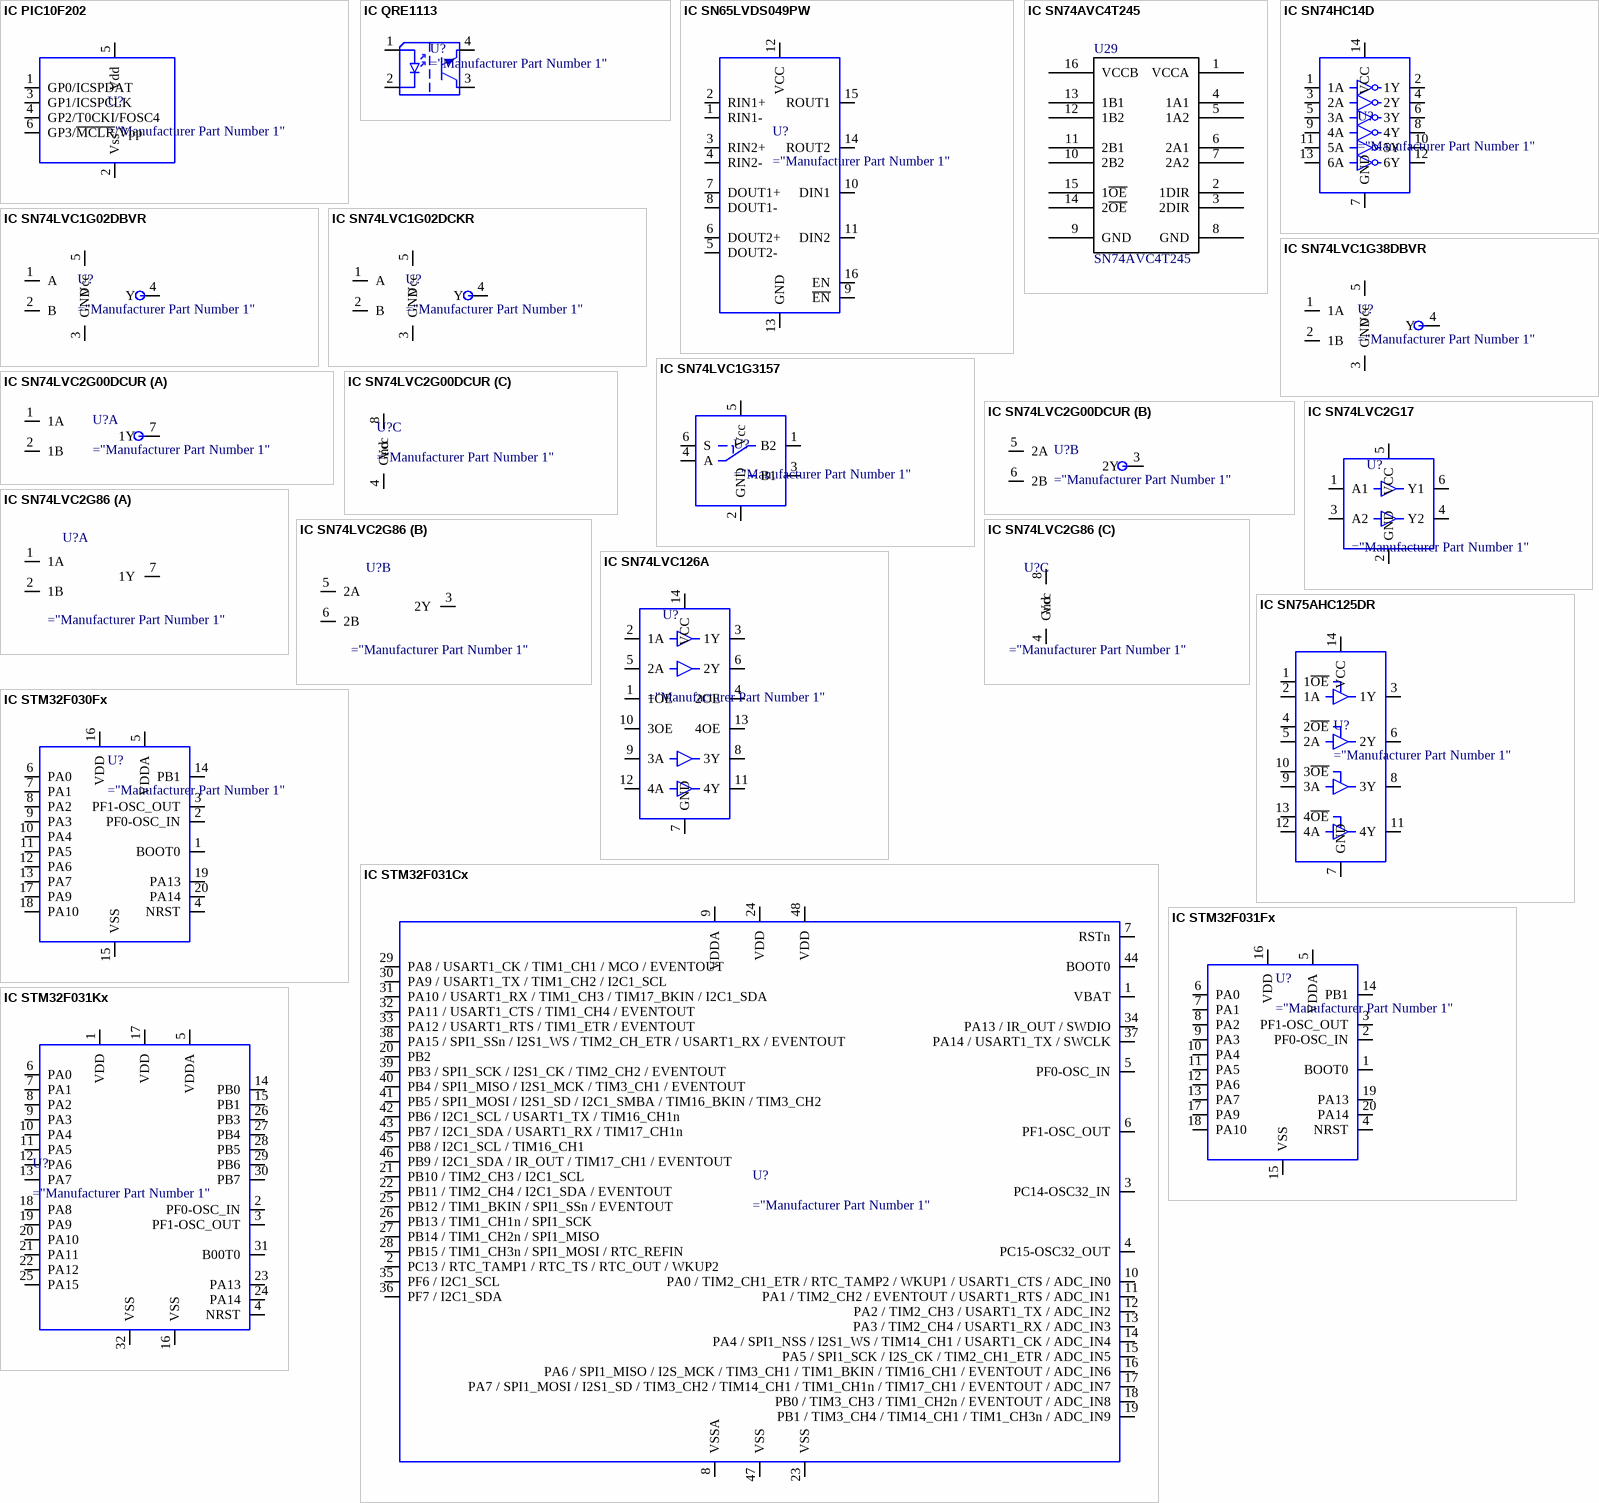
[diagram p19: symbols IC PIC10F202 to IC STM32F031Kx]

## IC PIC10F202
designator U?
MCU PIC 8-bit, Microchip PIC10F202
pins: 1 GP0/ICSPDAT, 2 Vss, 3 GP1/ICSPCLK, 4 GP2/T0CKI/FOSC4, 5 Vdd, 6 GP3/~{MCLR}/Vpp

## IC QRE1113
designator U?
SMT Reflective Object Sensor, Fairchild QRE1113
pins: 1 Anode, 2 Cathode, 3 Collector, 4 Emitter

## IC SN65LVDS049PW
designator U?
Dual LVDS Transmitter / Reciever
pins: 1 RIN1-, 2 RIN1+, 3 RIN2+, 4 RIN2-, 5 DOUT2-, 6 DOUT2+, 7 DOUT1+, 8 DOUT1-, 9 ~{EN}, 10 DIN1, 11 DIN2, 12 VCC, 13 GND, 14 ROUT2, 15 ROUT1, 16 EN

## IC SN74AVC4T245
designator U29, comment SN74AVC4T245
IC 4bit Bus Transceiver / Level Shifter TI SN74AVC4T245
pins: 1 VCCA, 2 1DIR, 3 2DIR, 4 1A1, 5 1A2, 6 2A1, 7 2A2, 8 GND, 9 GND, 10 2B2, 11 2B1, 12 1B2, 13 1B1, 14 2~{OE}, 15 1~{OE}, 16 VCCB

## IC SN74HC14D
designator U?
Hex Schmitt-Trigger Inverter, TI SN74HC14D
pins: 1 1A, 2 1Y, 3 2A, 4 2Y, 5 3A, 6 3Y, 7 GND, 8 4Y, 9 4A, 10 5Y, 11 5A, 12 6Y, 13 6A, 14 VCC

## IC SN74LVC1G02DBVR
designator U?
Single NOR Gate, TI SN74LVC1G02DBVR
pins: 1 A, 2 B, 3 GND, 4 Y, 5 Vcc

## IC SN74LVC1G02DCKR
designator U?
IC GATE NOR 1CH 2-INP SC-70-5
pins: 1 A, 2 B, 3 GND, 4 Y, 5 Vcc

## IC SN74LVC1G38DBVR
designator U?
Single NAND Gate, IC SN74LVC1G38DBVR
pins: 1 1A, 2 1B, 3 GND, 4 Y, 5 Vcc

## IC SN74LVC1G3157
designator U?
SPDT Analog Switch, TI SN74LVC1G3157
pins: 1 B2, 2 GND, 3 B1, 4 A, 5 Vcc, 6 S

## IC SN74LVC2G00DCUR
designator U?
IC GATE NAND 2CH 2-INP US8
part A pins: 1 1A, 2 1B, 7 1Y
part B pins: 3 2Y, 5 2A, 6 2B
part C pins: 4 Gnd, 8 Vcc

## IC SN74LVC2G17
designator U?
Dual Schmitt Trigger Gate, TI SN74LVC2G17
pins: 1 A1, 2 GND, 3 A2, 4 Y2, 5 VCC, 6 Y1

## IC SN74LVC2G86
designator U?
Dual XOR Gate, TI SN74LVC2G86
part A pins: 1 1A, 2 1B, 7 1Y
part B pins: 3 2Y, 5 2A, 6 2B
part C pins: 4 Gnd, 8 Vcc

## IC SN74LVC126A
designator U?
Quadruple Bus Buffer Gate With 3-State Outputs, TI SN74LVC126A
pins: 1 1OE, 2 1A, 3 1Y, 4 2OE, 5 2A, 6 2Y, 7 GND, 8 3Y, 9 3A, 10 3OE, 11 4Y, 12 4A, 13 4OE, 14 VCC

## IC SN75AHC125DR
designator U?
Quad Tristate Buffer Gate, TI SN75AHC125DR
pins: 1 1~{OE}, 2 1A, 3 1Y, 4 2~{OE}, 5 2A, 6 2Y, 7 GND, 8 3Y, 9 3A, 10 3~{OE}, 11 4Y, 12 4A, 13 4~{OE}, 14 VCC

## IC STM32F030Fx
designator U?
MCU ARM Cortex-M0, ST STM32F030Fx
pins: 1 BOOT0, 2 PF0-OSC_IN, 3 PF1-OSC_OUT, 4 NRST, 5 VDDA, 6 PA0, 7 PA1, 8 PA2, 9 PA3, 10 PA4, 11 PA5, 12 PA6, 13 PA7, 14 PB1, 15 VSS, 16 VDD, 17 PA9, 18 PA10, 19 PA13, 20 PA14

## IC STM32F031Cx
designator U?
MCU ARM Cortex-M0, ST STM32F031Cx
pins: 1 VBAT, 2 PC13 / RTC_TAMP1 / RTC_TS / RTC_OUT / WKUP2, 3 PC14-OSC32_IN, 4 PC15-OSC32_OUT, 5 PF0-OSC_IN, 6 PF1-OSC_OUT, 7 RSTn, 8 VSSA, 9 VDDA, 10 PA0 / TIM2_CH1_ETR / RTC_TAMP2 / WKUP1 / USART1_CTS / ADC_IN0, 11 PA1 / TIM2_CH2 / EVENTOUT / USART1_RTS / ADC_IN1, 12 PA2 / TIM2_CH3 / USART1_TX / ADC_IN2, 13 PA3 / TIM2_CH4 / USART1_RX / ADC_IN3, 14 PA4 / SPI1_NSS / I2S1_WS / TIM14_CH1 / USART1_CK / ADC_IN4, 15 PA5 / SPI1_SCK / I2S_CK / TIM2_CH1_ETR / ADC_IN5, 16 PA6 / SPI1_MISO / I2S_MCK / TIM3_CH1 / TIM1_BKIN / TIM16_CH1 / EVENTOUT / ADC_IN6, 17 PA7 / SPI1_MOSI / I2S1_SD / TIM3_CH2 / TIM14_CH1 / TIM1_CH1n / TIM17_CH1 / EVENTOUT / ADC_IN7, 18 PB0 / TIM3_CH3 / TIM1_CH2n / EVENTOUT / ADC_IN8, 19 PB1 / TIM3_CH4 / TIM14_CH1 / TIM1_CH3n / ADC_IN9, 20 PB2, 21 PB10 / TIM2_CH3 / I2C1_SCL, 22 PB11 / TIM2_CH4 / I2C1_SDA / EVENTOUT, 23 VSS, 24 VDD, 25 PB12 / TIM1_BKIN / SPI1_SSn / EVENTOUT, 26 PB13 / TIM1_CH1n / SPI1_SCK, 27 PB14 / TIM1_CH2n / SPI1_MISO, 28 PB15 / TIM1_CH3n / SPI1_MOSI / RTC_REFIN, 29 PA8 / USART1_CK / TIM1_CH1 / MCO / EVENTOUT, 30 PA9 / USART1_TX / TIM1_CH2 / I2C1_SCL, 31 PA10 / USART1_RX / TIM1_CH3 / TIM17_BKIN / I2C1_SDA, 32 PA11 / USART1_CTS / TIM1_CH4 / EVENTOUT, 33 PA12 / USART1_RTS / TIM1_ETR / EVENTOUT, 34 PA13 / IR_OUT / SWDIO, 35 PF6 / I2C1_SCL, 36 PF7 / I2C1_SDA, 37 PA14 / USART1_TX / SWCLK, 38 PA15 / SPI1_SSn / I2S1_WS / TIM2_CH_ETR / USART1_RX / EVENTOUT, 39 PB3 / SPI1_SCK / I2S1_CK / TIM2_CH2 / EVENTOUT, 40 PB4 / SPI1_MISO / I2S1_MCK / TIM3_CH1 / EVENTOUT, 41 PB5 / SPI1_MOSI / I2S1_SD / I2C1_SMBA / TIM16_BKIN / TIM3_CH2, 42 PB6 / I2C1_SCL / USART1_TX / TIM16_CH1n, 43 PB7 / I2C1_SDA / USART1_RX / TIM17_CH1n, 44 BOOT0, 45 PB8 / I2C1_SCL / TIM16_CH1, 46 PB9 / I2C1_SDA / IR_OUT / TIM17_CH1 / EVENTOUT, 47 VSS, 48 VDD
1 alternate drawing of the same symbol

## IC STM32F031Fx
designator U?
MCU ARM Cortex-M0, ST STM32F031Fx
pins: 1 BOOT0, 2 PF0-OSC_IN, 3 PF1-OSC_OUT, 4 NRST, 5 VDDA, 6 PA0, 7 PA1, 8 PA2, 9 PA3, 10 PA4, 11 PA5, 12 PA6, 13 PA7, 14 PB1, 15 VSS, 16 VDD, 17 PA9, 18 PA10, 19 PA13, 20 PA14

## IC STM32F031Kx
designator U?
MCU ARM Cortex-M0, ST STM32F031Kx
pins: 1 VDD, 2 PF0-OSC_IN, 3 PF1-OSC_OUT, 4 NRST, 5 VDDA, 6 PA0, 7 PA1, 8 PA2, 9 PA3, 10 PA4, 11 PA5, 12 PA6, 13 PA7, 14 PB0, 15 PB1, 16 VSS, 17 VDD, 18 PA8, 19 PA9, 20 PA10, 21 PA11, 22 PA12, 23 PA13, 24 PA14, 25 PA15, 26 PB3, 27 PB4, 28 PB5, 29 PB6, 30 PB7, 31 B00T0, 32 VSS

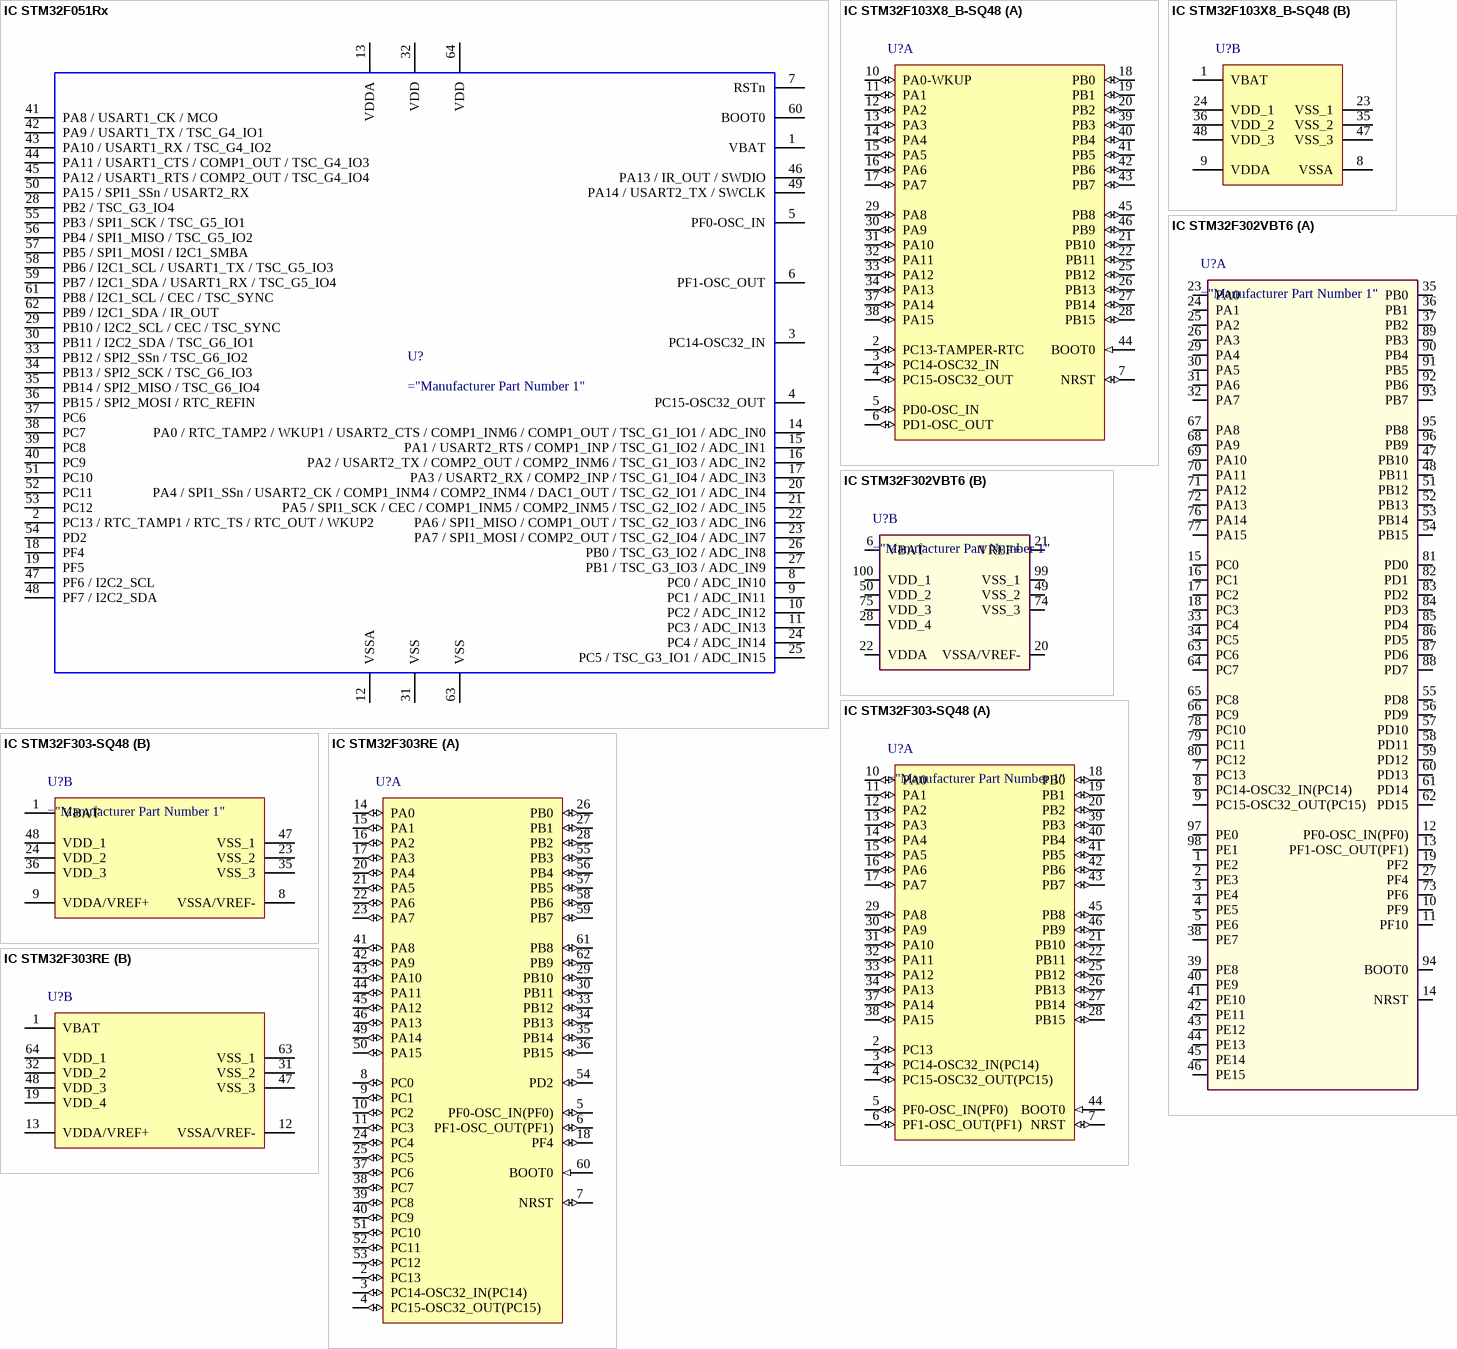
[diagram p20: symbols IC STM32F051Rx to IC STM32F303RE]

## IC STM32F051Rx
designator U?
MCU ARM Cortex-M0, ST STM32F051Rx
pins: 1 VBAT, 2 PC13 / RTC_TAMP1 / RTC_TS / RTC_OUT / WKUP2, 3 PC14-OSC32_IN, 4 PC15-OSC32_OUT, 5 PF0-OSC_IN, 6 PF1-OSC_OUT, 7 RSTn, 8 PC0 / ADC_IN10, 9 PC1 / ADC_IN11, 10 PC2 / ADC_IN12, 11 PC3 / ADC_IN13, 12 VSSA, 13 VDDA, 14 PA0 / RTC_TAMP2 / WKUP1 / USART2_CTS / COMP1_INM6 / COMP1_OUT / TSC_G1_IO1 / ADC_IN0, 15 PA1 / USART2_RTS / COMP1_INP / TSC_G1_IO2 / ADC_IN1, 16 PA2 / USART2_TX / COMP2_OUT / COMP2_INM6 / TSC_G1_IO3 / ADC_IN2, 17 PA3 / USART2_RX / COMP2_INP / TSC_G1_IO4 / ADC_IN3, 18 PF4, 19 PF5, 20 PA4 / SPI1_SSn / USART2_CK / COMP1_INM4 / COMP2_INM4 / DAC1_OUT / TSC_G2_IO1 / ADC_IN4, 21 PA5 / SPI1_SCK / CEC / COMP1_INM5 / COMP2_INM5 / TSC_G2_IO2 / ADC_IN5, 22 PA6 / SPI1_MISO / COMP1_OUT / TSC_G2_IO3 / ADC_IN6, 23 PA7 / SPI1_MOSI / COMP2_OUT / TSC_G2_IO4 / ADC_IN7, 24 PC4 / ADC_IN14, 25 PC5 / TSC_G3_IO1 / ADC_IN15, 26 PB0 / TSC_G3_IO2 / ADC_IN8, 27 PB1 / TSC_G3_IO3 / ADC_IN9, 28 PB2 / TSC_G3_IO4, 29 PB10 / I2C2_SCL / CEC / TSC_SYNC, 30 PB11 / I2C2_SDA / TSC_G6_IO1, 31 VSS, 32 VDD, 33 PB12 / SPI2_SSn / TSC_G6_IO2, 34 PB13 / SPI2_SCK / TSC_G6_IO3, 35 PB14 / SPI2_MISO / TSC_G6_IO4, 36 PB15 / SPI2_MOSI / RTC_REFIN, 37 PC6, 38 PC7, 39 PC8, 40 PC9, 41 PA8 / USART1_CK / MCO, 42 PA9 / USART1_TX / TSC_G4_IO1, 43 PA10 / USART1_RX / TSC_G4_IO2, 44 PA11 / USART1_CTS / COMP1_OUT / TSC_G4_IO3, 45 PA12 / USART1_RTS / COMP2_OUT / TSC_G4_IO4, 46 PA13 / IR_OUT / SWDIO, 47 PF6 / I2C2_SCL, 48 PF7 / I2C2_SDA, 49 PA14 / USART2_TX / SWCLK, 50 PA15 / SPI1_SSn / USART2_RX, 51 PC10, 52 PC11, 53 PC12, 54 PD2, 55 PB3 / SPI1_SCK / TSC_G5_IO1, 56 PB4 / SPI1_MISO / TSC_G5_IO2, 57 PB5 / SPI1_MOSI / I2C1_SMBA, 58 PB6 / I2C1_SCL / USART1_TX / TSC_G5_IO3, 59 PB7 / I2C1_SDA / USART1_RX / TSC_G5_IO4, 60 BOOT0, 61 PB8 / I2C1_SCL / CEC / TSC_SYNC, 62 PB9 / I2C1_SDA / IR_OUT, 63 VSS, 64 VDD

## IC STM32F103X8_B-SQ48
designator U?
part A pins: 2 PC13-TAMPER-RTC (io) "PC13-TAMPER-RTC/PC13/TAMPER-RTC", 3 PC14-OSC32_IN (io) "PC14-OSC32_IN/PC14/OSC32_IN", 4 PC15-OSC32_OUT (io) "PC15-OSC32_OUT/PC15/OSC32_OUT", 5 PD0-OSC_IN (io) "PD0/OSC_IN", 6 PD1-OSC_OUT (io) "PD1/OSC_OUT", 7 NRST (io), 10 PA0-WKUP (io) "PA0-WKUP/PA0/WKUP/USART2_CTS/ADC12_IN0/TIM2_CH1_ETR", 11 PA1 (io) "PA1/USART2_RTS/ADC12_IN1/TIM2_CH2", 12 PA2 (io) "PA2/USART2_TX/ADC12_IN2/TIM2_CH3", 13 PA3 (io) "PA3/USART2_RX/ADC12_IN3/TIM2_CH4", 14 PA4 (io) "PA4/SPI1_NSS/USART2_CK/ADC12_IN4", 15 PA5 (io) "PA5/SPI1_SCK/ADC12_IN5", 16 PA6 (io) "PA6/SPI1_MISO/ADC12_IN6/TIM3_CH1/TIM1_BKIN", 17 PA7 (io) "PA7/SPI1_MOSI/ADC12_IN7/TIM3_CH2/TIM1_CH1N", 18 PB0 (io) "PB0/ADC12_IN8/TIM3_CH3/TIM1_CH2N", 19 PB1 (io) "PB1/ADC12_IN9/TIM3_CH4/TIM1_CH3N", 20 PB2 (io) "PB2/BOOT1", 21 PB10 (io) "PB10/I2C2_SCL/USART3_TX/TIM2_CH3", 22 PB11 (io) "PB11/I2C2_SDA/USART3_RX/TIM2_CH4", 25 PB12 (io) "PB12/SPI2_NSS/I2C2_SMBAl/USART3_CK/TIM1_BKIN", 26 PB13 (io) "PB13/SPI2_SCK/USART3_CTS/TIM1_CH1N", 27 PB14 (io) "PB14/SPI2_MISO/USART3_RTS/TIM1_CH2N", 28 PB15 (io) "PB15/SPI2_MOSI/TIM1_CH3N", 29 PA8 (io) "PA8/USART1_CK/TIM1_CH1/MCO", 30 PA9 (io) "PA9/USART1_TX/TIM1_CH2", 31 PA10 (io) "PA10/USART1_RX/TIM1_CH3", 32 PA11 (io) "PA11/USART1_CTS/CANRX/USBDM/TIM1_CH4", 33 PA12 (io) "PA12/USART1_RTS/CANTX/USBDP/TIM1_ETR", 34 PA13 (io) "PA13/JTMS/SWDIO", 37 PA14 (io) "PA14/JTCK/SWCLK", 38 PA15 (io) "PA15/JTDI/TIM2_CH1_ETR/SPI1_NSS", 39 PB3 (io) "PB3/JTDO/TIM2_CH2/TRACESWO/SPI1_SCK", 40 PB4 (io) "PB4/NJTRST/TIM3_CH1/SPI1_MISO", 41 PB5 (io) "PB5/I2C1_SMBAI/TIM3_CH2/SPI1_MOSI", 42 PB6 (io) "PB6/I2C1_SCL/TIM4_CH1/USART1_TX", 43 PB7 (io) "PB7/I2C1_SDA/TIM4_CH2/USART1_RX", 44 BOOT0 (in), 45 PB8 (io) "PB8/TIM4_CH3/I2C1_SCL/CANRX", 46 PB9 (io) "PB9/TIM4_CH4/I2C1_SDA/CANTX"
part B pins: 1 VBAT (power), 8 VSSA (power), 9 VDDA (power), 23 VSS_1 (power), 24 VDD_1 (power), 35 VSS_2 (power), 36 VDD_2 (power), 47 VSS_3 (power), 48 VDD_3 (power)

## IC STM32F302VBT6
designator U?
MCU ARM Cortex-M4, ST STM32F302V
part A pins: 1 PE2 "PE2/TRACECK,TIM3_CH1,TSC_G7_IO1,EVENTOUT", 2 PE3 "PE3/TRACED0,TIM3_CH2,TSC_G7_IO2,EVENTOUT", 3 PE4 "PE4/TRACED1,TIM3_CH3,TSC_G7_IO3,EVENTOUT", 4 PE5 "PE5/TRACED2,TIM3_CH4,TSC_G7_IO4,EVENTOUT", 5 PE6 "PE6/TRACED3,EVENTOUT/WKUP3,RTC_TAMP3", 7 PC13 "PC13/TIM1_CH1N/WKUP2,RTC_TAMP1,RTC_TS,RTC_OUT", 8 PC14-OSC32_IN(PC14) "PC14-OSC32_IN(PC14)/OSC32_IN", 9 PC15-OSC32_OUT(PC15) "PC15-OSC32_OUT(PC15)/OSC32_OUT", 10 PF9 "PF9/TIM15_CH1,SPI2_SCK,EVENTOUT", 11 PF10 "PF10/TIM15_CH2,SPI2_SCK,EVENTOUT", 12 PF0-OSC_IN(PF0) "PF0-OSC_IN(PF0)/TIM1_CH3N,I2C2_SDA/OSC_IN", 13 PF1-OSC_OUT(PF1) "PF1-OSC_OUT(PF1)/I2C2_SCL/OSC_OUT", 14 NRST "Device reset input / internal reset output (active low)", 15 PC0 "PC0/EVENTOUT/ADC12_IN6,COMP7_INM", 16 PC1 "PC1/EVENTOUT/ADC12_IN7,COMP7_INP", 17 PC2 "PC2/COMP7_OUT,EVENTOUT/ADC12_IN8", 18 PC3 "PC3/TIM1_BKIN2,EVENTOUT/ADC12_IN9", 19 PF2 "PF2/EVENTOUT/ADC12_IN10", 23 PA0 "PA0/USART2_CTS,TIM2_CH1_ETR,TIM8_BKIN,TIM8_ETR,TSC_G1_IO1,COMP1_OUT,EVENTOUT/ADC1_IN1,COMP1_INM,RTC_TAMP2,WKUP1,COMP7_INP", 24 PA1 "PA1/USART2_RTS,TIM2_CH2,TSC_G1_IO2,TIM15_CH1N,RTC_REFIN,EVENTOUT/ADC1_IN2,COMP1_INP,OPAMP1_VINP,OPAMP3_VINP", 25 PA2 "PA2/USART2_TX,TIM2_CH3,TIM15_CH1,TSC_G1_IO3,COMP2_OUT,EVENTOUT/ADC1_IN3,COMP2_INM,OPAMP1_VOUT", 26 PA3 "PA3/USART2_RX,TIM2_CH4,TIM15_CH2,TSC_G1_IO4,EVENTOUT/ADC1_IN4,OPAMP1_VINP,COMP2_INP,OPAMP1_VINM", 27 PF4 "PF4/COMP1_OUT,EVENTOUT/ADC1_IN5", 29 PA4 "PA4/SPI1_NSS,SPI3_NSS,I2S3_WS,USART2_CK,TSC_G2_IO1,TIM3_CH2,EVENTOUT/ADC2_IN1,DAC1_OUT1,OPAMP4_VINP,COMP1_INM,COMP2_INM,COMP3_INM,COMP4_INM,COMP5_INM,COMP6_INM,COMP7_INM", 30 PA5 "PA5/SPI1_SCK,TIM2_CH1_ETR,TSC_G2_IO2,EVENTOUT/ADC2_IN2,DAC1_OUT2,OPAMP1_VINP,OPAMP2_VINM,OPAMP3_VINP,COMP1_INM,COMP2_INM,COMP3_INM,COMP4_INM,COMP5_INM,COMP6_INM,COMP7_INM", 31 PA6 "PA6/SPI1_MISO,TIM3_CH1,TIM8_BKIN,TIM1_BKIN,TIM16_CH1,COMP1_OUT,TSC_G2_IO3,EVENTOUT/ADC2_IN3,OPAMP2_VOUT", 32 PA7 "PA7/SPI1_MOSI,TIM3_CH2,TIM17_CH1,TIM1_CH1N,TIM8_CH1N,TSC_G2_IO4,COMP2_OUT,EVENTOUT/ADC2_IN4,COMP2_INP,OPAMP2_VINP,OPAMP1_VINP", 33 PC4 "PC4/USART1_TX,EVENTOUT/ADC2_IN5", 34 PC5 "PC5/USART1_RX,TSC_G3_IO1,EVENTOUT/ADC2_IN11,OPAMP2_VINM,OPAMP1_VINM", 35 PB0 "PB0/TIM3_CH3,TIM1_CH2N,TIM8_CH2N,TSC_G3_IO2,EVENTOUT/ADC3_IN12,COMP4_INP,OPAMP3_VINP,OPAMP2_VINP", 36 PB1 "PB1/TIM3_CH4,TIM1_CH3N,TIM8_CH3N,COMP4_OUT,TSC_G3_IO3,EVENTOUT/ADC3_IN1,OPAMP3_VOUT", 37 PB2 "PB2/TSC_G3_IO4,EVENTOUT/ADC2_IN12,COMP4_INM,OPAMP3_VINM", 38 PE7 "PE7/TIM1_ETR,EVENTOUT/ADC3_IN13,COMP4_INP", 39 PE8 "PE8/TIM1_CH1N,EVENTOUT/COMP4_INM,ADC34_IN6", 40 PE9 "PE9/TIM1_CH1,EVENTOUT/ADC3_IN2", 41 PE10 "PE10/TIM1_CH2N,EVENTOUT/ADC3_IN14", 42 PE11 "PE11/TIM1_CH2,EVENTOUT/ADC3_IN15", 43 PE12 "PE12/TIM1_CH3N,EVENTOUT/ADC3_IN16", 44 PE13 "PE13/TIM1_CH3,EVENTOUT/ADC3_IN3", 45 PE14 "PE14/TIM1_CH4,TIM1_BKIN2,EVENTOUT/ADC4_IN1", 46 PE15 "PE15/USART3_RX,TIM1_BKIN,EVENTOUT/ADC4_IN2", 47 PB10 "PB10/USART3_TX,TIM2_CH3,TSC_SYNC,EVENTOUT/COMP5_INM,OPAMP4_VINM,OPAMP3_VINM", 48 PB11 "PB11/USART3_RX,TIM2_CH4,TSC_G6_IO1,EVENTOUT/COMP6_INP,OPAMP4_VINP", 51 PB12 "PB12/SPI2_NSS,I2S2_WS,I2C2_SMBA,USART3_CK,TIM1_BKIN,TSC_G6_IO2,EVENTOUT/ADC4_IN3,COMP3_INM,OPAMP4_VOUT", 52 PB13 "PB13/SPI2_SCK,I2S2_CK,USART3_CTS,TIM1_CH1N,TSC_G6_IO3,EVENTOUT/ADC3_IN5,COMP5_INP,OPAMP4_VINP,OPAMP3_VINP", 53 PB14 "PB14/SPI2_MISO,I2S2ext_SD,USART3_RTS,TIM1_CH2N,TIM15_CH1,TSC_G6_IO4,EVENTOUT/COMP3_INP,ADC4_IN4,OPAMP2_VINP", 54 PB15 "PB15/SPI2_MOSI,I2S2_SD,TIM1_CH3N,RTC_REFIN,TIM15_CH1N,TIM15_CH2,EVENTOUT/ADC4_IN5,COMP6_INM", 55 PD8 "PD8/USART3_TX,EVENTOUT/ADC4_IN12,OPAMP4_VINM", 56 PD9 "PD9/USART3_RX,EVENTOUT/ADC4_IN13", 57 PD10 "PD10/USART3_CK,EVENTOUT/ADC34_IN7,COMP6_INM", 58 PD11 "PD11/USART3_CTS,EVENTOUT/ADC34_IN8,COMP6_INP,OPAMP4_VINP", 59 PD12 "PD12/USART3_RTS,TIM4_CH1,TSC_G8_IO1,EVENTOUT/ADC34_IN9,COMP5_INP", 60 PD13 "PD13/TIM4_CH2,TSC_G8_IO2,EVENTOUT/ADC34_IN10,COMP5_INM", 61 PD14 "PD14/TIM4_CH3,TSC_G8_IO3,EVENTOUT/COMP3_INP,ADC34_IN11,OPAMP2_VINP", 62 PD15 "PD15/SPI2_NSS,TIM4_CH4,TSC_G8_IO4,EVENTOUT/COMP3_INM", 63 PC6 "PC6/I2S2_MCK,COMP6_OUT,TIM8_CH1,TIM3_CH1,EVENTOUT", 64 PC7 "PC7/I2S3_MCK,TIM8_CH2,TIM3_CH2,COMP5_OUT,EVENTOUT", 65 PC8 "PC8/TIM8_CH3,TIM3_CH3,COMP3_OUT,EVENTOUT", 66 PC9 "PC9/TIM8_CH4,TIM8_BKIN2,TIM3_CH4,I2S_CKIN,EVENTOUT", 67 PA8 "PA8/I2C2_SMBA,I2S2_MCK,USART1_CK,TIM1_CH1,TIM4_ETR,MCO,COMP3_OUT,EVENTOUT", 68 PA9 "PA9/I2C2_SCL,I2S3_MCK,USART1_TX,TIM1_CH2,TIM2_CH3,TIM15_BKIN,TSC_G4_IO1,COMP5_OUT,EVENTOUT", 69 PA10 "PA10/I2C2_SDA,USART1_RX,TIM1_CH3,TIM2_CH4,TIM8_BKIN,TIM17_BKIN,TSC_G4_IO2,COMP6_OUT,EVENTOUT", 70 PA11 "PA11/USART1_CTS,USB_DM,CAN_RX,TIM1_CH1N,TIM1_CH4,TIM1_BKIN2,TIM4_CH1,COMP1_OUT,EVENTOUT", 71 PA12 "PA12/USART1_RTS,USB_DP,CAN_TX,TIM1_CH2N,TIM1_ETR,TIM4_CH2,TIM16_CH1,COMP2_OUT,EVENTOUT", 72 PA13 "PA13/USART3_CTS,TIM4_CH3,TIM16_CH1N,TSC_G4_IO3,IR_OUT,SWDIO-JTMS,EVENTOUT", 73 PF6 "PF6/I2C2_SCL,USART3_RTS,TIM4_CH4,EVENTOUT", 76 PA14 "PA14/I2C1_SDA,USART2_TX,TIM8_CH2,TIM1_BKIN,TSC_G4_IO4,SWCLK-JTCK,EVENTOUT", 77 PA15 "PA15/I2C1_SCL,SPI1_NSS,SPI3_NSS,I2S3_WS,JTDI,USART2_RX,TIM1_BKIN,TIM2_CH1_ETR,TIM8_CH1,EVENTOUT", 78 PC10 "PC10/SPI3_SCK,I2S3_CK,USART3_TX,UART4_TX,TIM8_CH1N,EVENTOUT", 79 PC11 "PC11/SPI3_MISO,I2S3ext_SD,USART3_RX,UART4_RX,TIM8_CH2N,EVENTOUT", 80 PC12 "PC12/SPI3_MOSI,I2S3_SD,USART3_CK,UART5_TX,TIM8_CH3N,EVENTOUT", 81 PD0 "PD0/CAN_RX,EVENTOUT", 82 PD1 "PD1/CAN_TX,TIM8_CH4,TIM8_BKIN2,EVENTOUT", 83 PD2 "PD2/UART5_RX,TIM3_ETR,TIM8_BKIN,EVENTOUT", 84 PD3 "PD3/USART2_CTS,TIM2_CH1_ETR,EVENTOUT", 85 PD4 "PD4/USART2_RTS,TIM2_CH2,EVENTOUT", 86 PD5 "PD5/USART2_TX,EVENTOUT", 87 PD6 "PD6/USART2_RX,TIM2_CH4,EVENTOUT", 88 PD7 "PD7/USART2_CK,TIM2_CH3,EVENTOUT", 89 PB3 "PB3/SPI3_SCK,I2S3_CK,SPI1_SCK,USART2_TX,TIM2_CH2,TIM3_ETR,TIM4_ETR,TIM8_CH1N,TSC_G5_IO1,JTDO-TRACESWO,EVENTOUT", 90 PB4 "PB4/SPI3_MISO,I2S3ext_SD,SPI1_MISO,USART2_RX,TIM3_CH1,TIM16_CH1,TIM17_BKIN,TIM8_CH2N,TSC_G5_IO2,NJTRST,EVENTOUT", 91 PB5 "PB5/SPI3_MOSI,SPI1_MOSI,I2S3_SD,I2C1_SMBA,USART2_CK,TIM16_BKIN,TIM3_CH2,TIM8_CH3N,TIM17_CH1,EVENTOUT", 92 PB6 "PB6/I2C1_SCL,USART1_TX,TIM16_CH1N,TIM4_CH1,TIM8_CH1,TSC_G5_IO3,TIM8_ETR,TIM8_BKIN2,EVENTOUT", 93 PB7 "PB7/I2C1_SDA,USART1_RX,TIM3_CH4,TIM4_CH2,TIM17_CH1N,TIM8_BKIN,TSC_G5_IO4,EVENTOUT", 94 BOOT0 "Boot memory selection", 95 PB8 "PB8/I2C1_SCL,CAN_RX,TIM16_CH1,TIM4_CH3,TIM8_CH2,TIM1_BKIN,TSC_SYNC,COMP1_OUT,EVENTOUT", 96 PB9 "PB9/I2C1_SDA,CAN_TX,TIM17_CH1,TIM4_CH4,TIM8_CH3,IR_OUT,COMP2_OUT,EVENTOUT", 97 PE0 "PE0/USART1_TX,TIM4_ETR,TIM16_CH1,EVENTOUT", 98 PE1 "PE1/USART1_RX,TIM17_CH1,EVENTOUT"
part B pins: 6 VBAT "Backup power supply", 20 VSSA/VREF- "Analog ground/Negative reference voltage", 21 VREF+ "Positive reference voltage", 22 VDDA "Analog power supply", 28 VDD_4 "Digital power supply", 49 VSS_2 "Digital ground", 50 VDD_2 "Digital power supply", 74 VSS_3 "Ground", 75 VDD_3 "Digital power supply", 99 VSS_1 "Ground", 100 VDD_1 "Digital power supply"

## IC STM32F303-SQ48
designator U?
STM32F303CB 32-Bit ARM MCU
part A pins: 2 PC13 (io) "PC13/TIM1_CH1N/WKUP2,RTC_TAMP1,RTC_TS,RTC_OUT", 3 PC14-OSC32_IN(PC14) (io) "PC14-OSC32_IN(PC14)/OSC32_IN", 4 PC15-OSC32_OUT(PC15) (io) "PC15-OSC32_OUT(PC15)/OSC32_OUT", 5 PF0-OSC_IN(PF0) (io) "PF0-OSC_IN(PF0)/TIM1_CH3N,I2C2_SDA/OSC_IN", 6 PF1-OSC_OUT(PF1) (io) "PF1-OSC_OUT(PF1)/I2C2_SCL/OSC_OUT", 7 NRST (io) "Device reset input / internal reset output (active low)", 10 PA0 (io) "PA0/USART2_CTS,TIM2_CH1_ETR,TIM8_BKIN,TIM8_ETR,TSC_G1_IO1,COMP1_OUT,EVENTOUT/ADC1_IN1,COMP1_INM,RTC_TAMP2,WKUP1,COMP7_INP", 11 PA1 (io) "PA1/USART2_RTS,TIM2_CH2,TSC_G1_IO2,TIM15_CH1N,RTC_REFIN,EVENTOUT/ADC1_IN2,COMP1_INP,OPAMP1_VINP,OPAMP3_VINP", 12 PA2 (io) "PA2/USART2_TX,TIM2_CH3,TIM15_CH1,TSC_G1_IO3,COMP2_OUT,EVENTOUT/ADC1_IN3,COMP2_INM,OPAMP1_VOUT", 13 PA3 (io) "PA3/USART2_RX,TIM2_CH4,TIM15_CH2,TSC_G1_IO4,EVENTOUT/ADC1_IN4,OPAMP1_VINP,COMP2_INP,OPAMP1_VINM", 14 PA4 (io) "PA4/SPI1_NSS,SPI3_NSS,I2S3_WS,USART2_CK,TSC_G2_IO1,TIM3_CH2,EVENTOUT/ADC2_IN1,DAC1_OUT1,OPAMP4_VINP,COMP1_INM,COMP2_INM,COMP3_INM,COMP4_INM,COMP5_INM,COMP6_INM,COMP7_INM", 15 PA5 (io) "PA5/SPI1_SCK,TIM2_CH1_ETR,TSC_G2_IO2,EVENTOUT/ADC2_IN2,DAC1_OUT2,OPAMP1_VINP,OPAMP2_VINM,OPAMP3_VINP,COMP1_INM,COMP2_INM,COMP3_INM,COMP4_INM,COMP5_INM,COMP6_INM,COMP7_INM", 16 PA6 (io) "PA6/SPI1_MISO,TIM3_CH1,TIM8_BKIN,TIM1_BKIN,TIM16_CH1,COMP1_OUT,TSC_G2_IO3,EVENTOUT/ADC2_IN3,OPAMP2_VOUT", 17 PA7 (io) "PA7/SPI1_MOSI,TIM3_CH2,TIM17_CH1,TIM1_CH1N,TIM8_CH1N,TSC_G2_IO4,COMP2_OUT,EVENTOUT/ADC2_IN4,COMP2_INP,OPAMP2_VINP,OPAMP1_VINP", 18 PB0 (io) "PB0/TIM3_CH3,TIM1_CH2N,TIM8_CH2N,TSC_G3_IO2,EVENTOUT/ADC3_IN12,COMP4_INP,OPAMP3_VINP,OPAMP2_VINP", 19 PB1 (io) "PB1/TIM3_CH4,TIM1_CH3N,TIM8_CH3N,COMP4_OUT,TSC_G3_IO3,EVENTOUT/ADC3_IN1,OPAMP3_VOUT", 20 PB2 (io) "PB2/TSC_G3_IO4,EVENTOUT/ADC2_IN12,COMP4_INM,OPAMP3_VINM", 21 PB10 (io) "PB10/USART3_TX,TIM2_CH3,TSC_SYNC,EVENTOUT/COMP5_INM,OPAMP4_VINM,OPAMP3_VINM", 22 PB11 (io) "PB11/USART3_RX,TIM2_CH4,TSC_G6_IO1,EVENTOUT/COMP6_INP,OPAMP4_VINP", 25 PB12 (io) "PB12/SPI2_NSS,I2S2_WS,I2C2_SMBA,USART3_CK,TIM1_BKIN,TSC_G6_IO2,EVENTOUT/ADC4_IN3,COMP3_INM,OPAMP4_VOUT", 26 PB13 (io) "PB13/SPI2_SCK,I2S2_CK,USART3_CTS,TIM1_CH1N,TSC_G6_IO3,EVENTOUT/ADC3_IN5,COMP5_INP,OPAMP4_VINP,OPAMP3_VINP", 27 PB14 (io) "PB14/SPI2_MISO,I2S2ext_SD,USART3_RTS,TIM1_CH2N,TIM15_CH1,TSC_G6_IO4,EVENTOUT/COMP3_INP,ADC4_IN4,OPAMP2_VINP", 28 PB15 (io) "PB15/SPI2_MOSI,I2S2_SD,TIM1_CH3N,RTC_REFIN,TIM15_CH1N,TIM15_CH2,EVENTOUT/ADC4_IN5,COMP6_INM", 29 PA8 (io) "PA8/I2C2_SMBA,I2S2_MCK,USART1_CK,TIM1_CH1,TIM4_ETR,MCO,COMP3_OUT,EVENTOUT", 30 PA9 (io) "PA9/I2C2_SCL,I2S3_MCK,USART1_TX,TIM1_CH2,TIM2_CH3,TIM15_BKIN,TSC_G4_IO1,COMP5_OUT,EVENTOUT", 31 PA10 (io) "PA10/I2C2_SDA,USART1_RX,TIM1_CH3,TIM2_CH4,TIM8_BKIN,TIM17_BKIN,TSC_G4_IO2,COMP6_OUT,EVENTOUT", 32 PA11 (io) "PA11/USART1_CTS,USB_DM,CAN_RX,TIM1_CH1N,TIM1_CH4,TIM1_BKIN2,TIM4_CH1,COMP1_OUT,EVENTOUT", 33 PA12 (io) "PA12/USART1_RTS,USB_DP,CAN_TX,TIM1_CH2N,TIM1_ETR,TIM4_CH2,TIM16_CH1,COMP2_OUT,EVENTOUT", 34 PA13 (io) "PA13/USART3_CTS,TIM4_CH3,TIM16_CH1N,TSC_G4_IO3,IR_OUT,SWDIO-JTMS,EVENTOUT", 37 PA14 (io) "PA14/I2C1_SDA,USART2_TX,TIM8_CH2,TIM1_BKIN,TSC_G4_IO4,SWCLK-JTCK,EVENTOUT", 38 PA15 (io) "PA15/I2C1_SCL,SPI1_NSS,SPI3_NSS,I2S3_WS,JTDI,USART2_RX,TIM1_BKIN,TIM2_CH1_ETR,TIM8_CH1,EVENTOUT", 39 PB3 (io) "PB3/SPI3_SCK,I2S3_CK,SPI1_SCK,USART2_TX,TIM2_CH2,TIM3_ETR,TIM4_ETR,TIM8_CH1N,TSC_G5_IO1,JTDO-TRACESWO,EVENTOUT", 40 PB4 (io) "PB4/SPI3_MISO,I2S3ext_SD,SPI1_MISO,USART2_RX,TIM3_CH1,TIM16_CH1,TIM17_BKIN,TIM8_CH2N,TSC_G5_IO2,NJTRST,EVENTOUT", 41 PB5 (io) "PB5/SPI3_MOSI,SPI1_MOSI,I2S3_SD,I2C1_SMBA,USART2_CK,TIM16_BKIN,TIM3_CH2,TIM8_CH3N,TIM17_CH1,EVENTOUT", 42 PB6 (io) "PB6/I2C1_SCL,USART1_TX,TIM16_CH1N,TIM4_CH1,TIM8_CH1,TSC_G5_IO3,TIM8_ETR,TIM8_BKIN2,EVENTOUT", 43 PB7 (io) "PB7/I2C1_SDA,USART1_RX,TIM3_CH4,TIM4_CH2,TIM17_CH1N,TIM8_BKIN,TSC_G5_IO4,EVENTOUT", 44 BOOT0 (in) "Boot memory selection", 45 PB8 (io) "PB8/I2C1_SCL,CAN_RX,TIM16_CH1,TIM4_CH3,TIM8_CH2,TIM1_BKIN,TSC_SYNC,COMP1_OUT,EVENTOUT", 46 PB9 (io) "PB9/I2C1_SDA,CAN_TX,TIM17_CH1,TIM4_CH4,TIM8_CH3,IR_OUT,COMP2_OUT,EVENTOUT"
part B pins: 1 VBAT (power) "Backup power supply", 8 VSSA/VREF- (power) "Analog ground/Negative reference voltage", 9 VDDA/VREF+ (power) "Analog power supply/Positive reference voltage", 23 VSS_2 (power) "Digital power supply", 24 VDD_2 (power) "Digital power supply", 35 VSS_3 (power) "Ground", 36 VDD_3 (power) "Digital power supply", 47 VSS_1 (power) "Ground", 48 VDD_1 (power) "Digital power supply"

## IC STM32F303RE
designator U?
STM32F3 Series Cortex-M4 MCU 72MHz, 512KB Flash,  LQFP-64
part A pins: 2 PC13 (io) "PC13/TIM1_CH1N/WKUP2,RTC_TAMP1,RTC_TS,RTC_OUT", 3 PC14-OSC32_IN(PC14) (io) "PC14-OSC32_IN(PC14)/OSC32_IN", 4 PC15-OSC32_OUT(PC15) (io) "PC15-OSC32_OUT(PC15)/OSC32_OUT", 5 PF0-OSC_IN(PF0) (io) "PF0-OSC_IN(PF0)/TIM1_CH3N,I2C2_SDA/OSC_IN", 6 PF1-OSC_OUT(PF1) (io) "PF1-OSC_OUT(PF1)/I2C2_SCL/OSC_OUT", 7 NRST (io) "Device reset input / internal reset output (active low)", 8 PC0 (io) "PC0/EVENTOUT/ADC12_IN6,COMP7_INM", 9 PC1 (io) "PC1/EVENTOUT/ADC12_IN7,COMP7_INP", 10 PC2 (io) "PC2/COMP7_OUT,EVENTOUT/ADC12_IN8", 11 PC3 (io) "PC3/TIM1_BKIN2,EVENTOUT/ADC12_IN9", 14 PA0 (io) "PA0/USART2_CTS,TIM2_CH1_ETR,TIM8_BKIN,TIM8_ETR,TSC_G1_IO1,COMP1_OUT,EVENTOUT/ADC1_IN1,COMP1_INM,RTC_TAMP2,WKUP1,COMP7_INP", 15 PA1 (io) "PA1/USART2_RTS,TIM2_CH2,TSC_G1_IO2,TIM15_CH1N,RTC_REFIN,EVENTOUT/ADC1_IN2,COMP1_INP,OPAMP1_VINP,OPAMP3_VINP", 16 PA2 (io) "PA2/USART2_TX,TIM2_CH3,TIM15_CH1,TSC_G1_IO3,COMP2_OUT,EVENTOUT/ADC1_IN3,COMP2_INM,OPAMP1_VOUT", 17 PA3 (io) "PA3/USART2_RX,TIM2_CH4,TIM15_CH2,TSC_G1_IO4,EVENTOUT/ADC1_IN4,OPAMP1_VINP,COMP2_INP,OPAMP1_VINM", 18 PF4 (io) "PF4/COMP1_OUT,EVENTOUT/ADC1_IN5", 20 PA4 (io) "PA4/SPI1_NSS,SPI3_NSS,I2S3_WS,USART2_CK,TSC_G2_IO1,TIM3_CH2,EVENTOUT/ADC2_IN1,DAC1_OUT1,OPAMP4_VINP,COMP1_INM,COMP2_INM,COMP3_INM,COMP4_INM,COMP5_INM,COMP6_INM,COMP7_INM", 21 PA5 (io) "PA5/SPI1_SCK,TIM2_CH1_ETR,TSC_G2_IO2,EVENTOUT/ADC2_IN2,DAC1_OUT2,OPAMP1_VINP,OPAMP2_VINM,OPAMP3_VINP,COMP1_INM,COMP2_INM,COMP3_INM,COMP4_INM,COMP5_INM,COMP6_INM,COMP7_INM", 22 PA6 (io) "PA6/SPI1_MISO,TIM3_CH1,TIM8_BKIN,TIM1_BKIN,TIM16_CH1,COMP1_OUT,TSC_G2_IO3,EVENTOUT/ADC2_IN3,OPAMP2_VOUT", 23 PA7 (io) "PA7/SPI1_MOSI,TIM3_CH2,TIM17_CH1,TIM1_CH1N,TIM8_CH1N,TSC_G2_IO4,COMP2_OUT,EVENTOUT/ADC2_IN4,COMP2_INP,OPAMP2_VINP,OPAMP1_VINP", 24 PC4 (io) "PC4/USART1_TX,EVENTOUT/ADC2_IN5", 25 PC5 (io) "PC5/USART1_RX,TSC_G3_IO1,EVENTOUT/ADC2_IN11,OPAMP2_VINM,OPAMP1_VINM", 26 PB0 (io) "PB0/TIM3_CH3,TIM1_CH2N,TIM8_CH2N,TSC_G3_IO2,EVENTOUT/ADC3_IN12,COMP4_INP,OPAMP3_VINP,OPAMP2_VINP", 27 PB1 (io) "PB1/TIM3_CH4,TIM1_CH3N,TIM8_CH3N,COMP4_OUT,TSC_G3_IO3,EVENTOUT/ADC3_IN1,OPAMP3_VOUT", 28 PB2 (io) "PB2/TSC_G3_IO4,EVENTOUT/ADC2_IN12,COMP4_INM,OPAMP3_VINM", 29 PB10 (io) "PB10/USART3_TX,TIM2_CH3,TSC_SYNC,EVENTOUT/COMP5_INM,OPAMP4_VINM,OPAMP3_VINM", 30 PB11 (io) "PB11/USART3_RX,TIM2_CH4,TSC_G6_IO1,EVENTOUT/COMP6_INP,OPAMP4_VINP", 33 PB12 (io) "PB12/SPI2_NSS,I2S2_WS,I2C2_SMBA,USART3_CK,TIM1_BKIN,TSC_G6_IO2,EVENTOUT/ADC4_IN3,COMP3_INM,OPAMP4_VOUT", 34 PB13 (io) "PB13/SPI2_SCK,I2S2_CK,USART3_CTS,TIM1_CH1N,TSC_G6_IO3,EVENTOUT/ADC3_IN5,COMP5_INP,OPAMP4_VINP,OPAMP3_VINP", 35 PB14 (io) "PB14/SPI2_MISO,I2S2ext_SD,USART3_RTS,TIM1_CH2N,TIM15_CH1,TSC_G6_IO4,EVENTOUT/COMP3_INP,ADC4_IN4,OPAMP2_VINP", 36 PB15 (io) "PB15/SPI2_MOSI,I2S2_SD,TIM1_CH3N,RTC_REFIN,TIM15_CH1N,TIM15_CH2,EVENTOUT/ADC4_IN5,COMP6_INM", 37 PC6 (io) "PC6/I2S2_MCK,COMP6_OUT,TIM8_CH1,TIM3_CH1,EVENTOUT", 38 PC7 (io) "PC7/I2S3_MCK,TIM8_CH2,TIM3_CH2,COMP5_OUT,EVENTOUT", 39 PC8 (io) "PC8/TIM8_CH3,TIM3_CH3,COMP3_OUT,EVENTOUT", 40 PC9 (io) "PC9/TIM8_CH4,TIM8_BKIN2,TIM3_CH4,I2S_CKIN,EVENTOUT", 41 PA8 (io) "PA8/I2C2_SMBA,I2S2_MCK,USART1_CK,TIM1_CH1,TIM4_ETR,MCO,COMP3_OUT,EVENTOUT", 42 PA9 (io) "PA9/I2C2_SCL,I2S3_MCK,USART1_TX,TIM1_CH2,TIM2_CH3,TIM15_BKIN,TSC_G4_IO1,COMP5_OUT,EVENTOUT", 43 PA10 (io) "PA10/I2C2_SDA,USART1_RX,TIM1_CH3,TIM2_CH4,TIM8_BKIN,TIM17_BKIN,TSC_G4_IO2,COMP6_OUT,EVENTOUT", 44 PA11 (io) "PA11/USART1_CTS,USB_DM,CAN_RX,TIM1_CH1N,TIM1_CH4,TIM1_BKIN2,TIM4_CH1,COMP1_OUT,EVENTOUT", 45 PA12 (io) "PA12/USART1_RTS,USB_DP,CAN_TX,TIM1_CH2N,TIM1_ETR,TIM4_CH2,TIM16_CH1,COMP2_OUT,EVENTOUT", 46 PA13 (io) "PA13/USART3_CTS,TIM4_CH3,TIM16_CH1N,TSC_G4_IO3,IR_OUT,SWDIO-JTMS,EVENTOUT", 49 PA14 (io) "PA14/I2C1_SDA,USART2_TX,TIM8_CH2,TIM1_BKIN,TSC_G4_IO4,SWCLK-JTCK,EVENTOUT", 50 PA15 (io) "PA15/I2C1_SCL,SPI1_NSS,SPI3_NSS,I2S3_WS,JTDI,USART2_RX,TIM1_BKIN,TIM2_CH1_ETR,TIM8_CH1,EVENTOUT", 51 PC10 (io) "PC10/SPI3_SCK,I2S3_CK,USART3_TX,UART4_TX,TIM8_CH1N,EVENTOUT", 52 PC11 (io) "PC11/SPI3_MISO,I2S3ext_SD,USART3_RX,UART4_RX,TIM8_CH2N,EVENTOUT", 53 PC12 (io) "PC12/SPI3_MOSI,I2S3_SD,USART3_CK,UART5_TX,TIM8_CH3N,EVENTOUT", 54 PD2 (io) "PD2/UART5_RX,TIM3_ETR,TIM8_BKIN,EVENTOUT", 55 PB3 (io) "PB3/SPI3_SCK,I2S3_CK,SPI1_SCK,USART2_TX,TIM2_CH2,TIM3_ETR,TIM4_ETR,TIM8_CH1N,TSC_G5_IO1,JTDO-TRACESWO,EVENTOUT", 56 PB4 (io) "PB4/SPI3_MISO,I2S3ext_SD,SPI1_MISO,USART2_RX,TIM3_CH1,TIM16_CH1,TIM17_BKIN,TIM8_CH2N,TSC_G5_IO2,NJTRST,EVENTOUT", 57 PB5 (io) "PB5/SPI3_MOSI,SPI1_MOSI,I2S3_SD,I2C1_SMBA,USART2_CK,TIM16_BKIN,TIM3_CH2,TIM8_CH3N,TIM17_CH1,EVENTOUT", 58 PB6 (io) "PB6/I2C1_SCL,USART1_TX,TIM16_CH1N,TIM4_CH1,TIM8_CH1,TSC_G5_IO3,TIM8_ETR,TIM8_BKIN2,EVENTOUT", 59 PB7 (io) "PB7/I2C1_SDA,USART1_RX,TIM3_CH4,TIM4_CH2,TIM17_CH1N,TIM8_BKIN,TSC_G5_IO4,EVENTOUT", 60 BOOT0 (in) "Boot memory selection", 61 PB8 (io) "PB8/I2C1_SCL,CAN_RX,TIM16_CH1,TIM4_CH3,TIM8_CH2,TIM1_BKIN,TSC_SYNC,COMP1_OUT,EVENTOUT", 62 PB9 (io) "PB9/I2C1_SDA,CAN_TX,TIM17_CH1,TIM4_CH4,TIM8_CH3,IR_OUT,COMP2_OUT,EVENTOUT"
part B pins: 1 VBAT (power) "Backup power supply", 12 VSSA/VREF- (power) "Analog ground/Negative reference voltage", 13 VDDA/VREF+ (power) "Analog power supply/Positive reference voltage", 19 VDD_4 (power) "Digital power supply", 31 VSS_2 (power) "Digital ground", 32 VDD_2 (power) "Digital power supply", 47 VSS_3 (power) "Ground", 48 VDD_3 (power) "Digital power supply", 63 VSS_1 (power) "Ground", 64 VDD_1 (power) "Digital power supply"

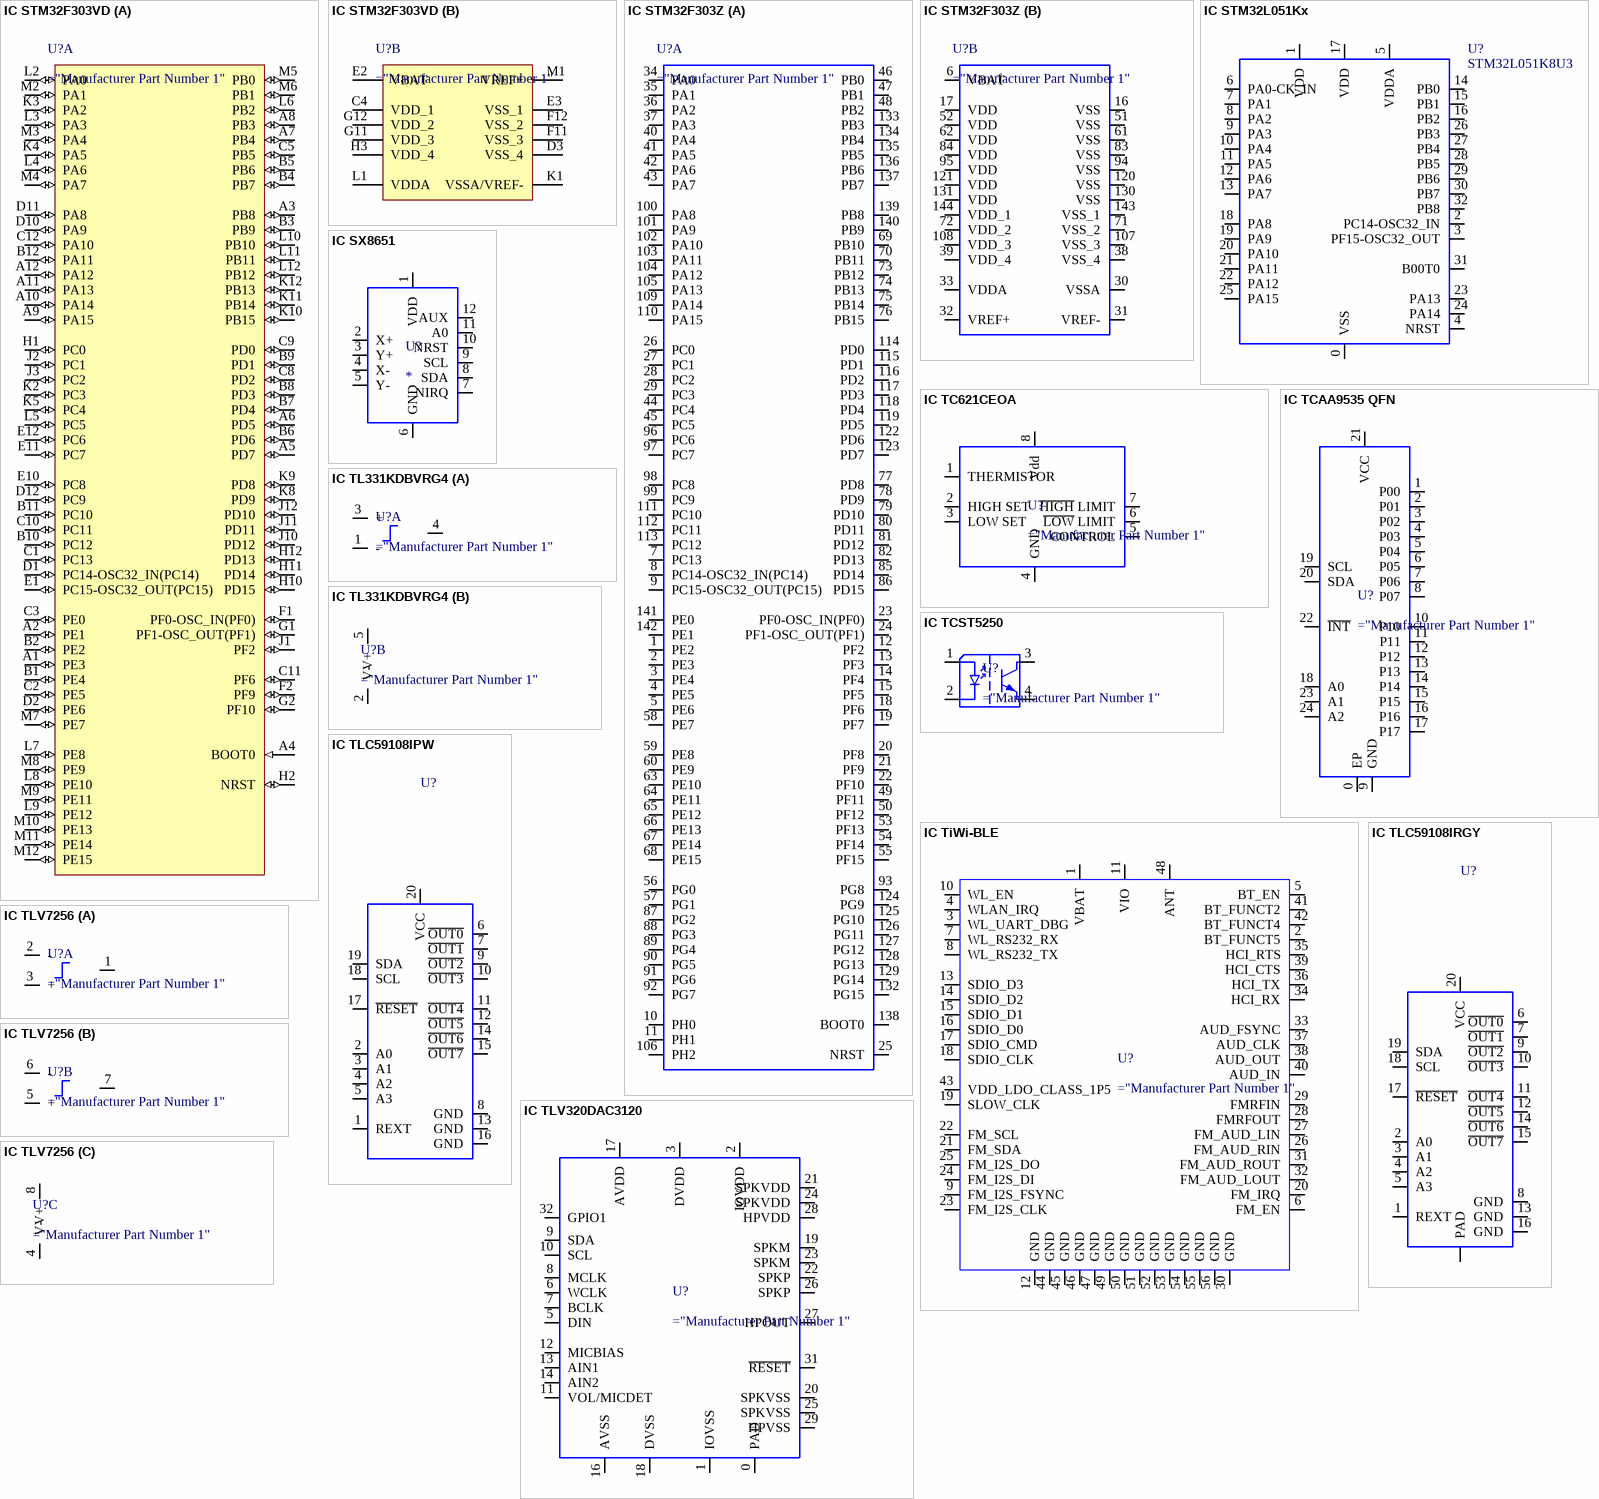
[diagram p21: symbols IC STM32F303VD to IC TLV7256]